# Altium integrated library Altera Cyclone II.IntLib: 234 symbols (part 3 of 38)
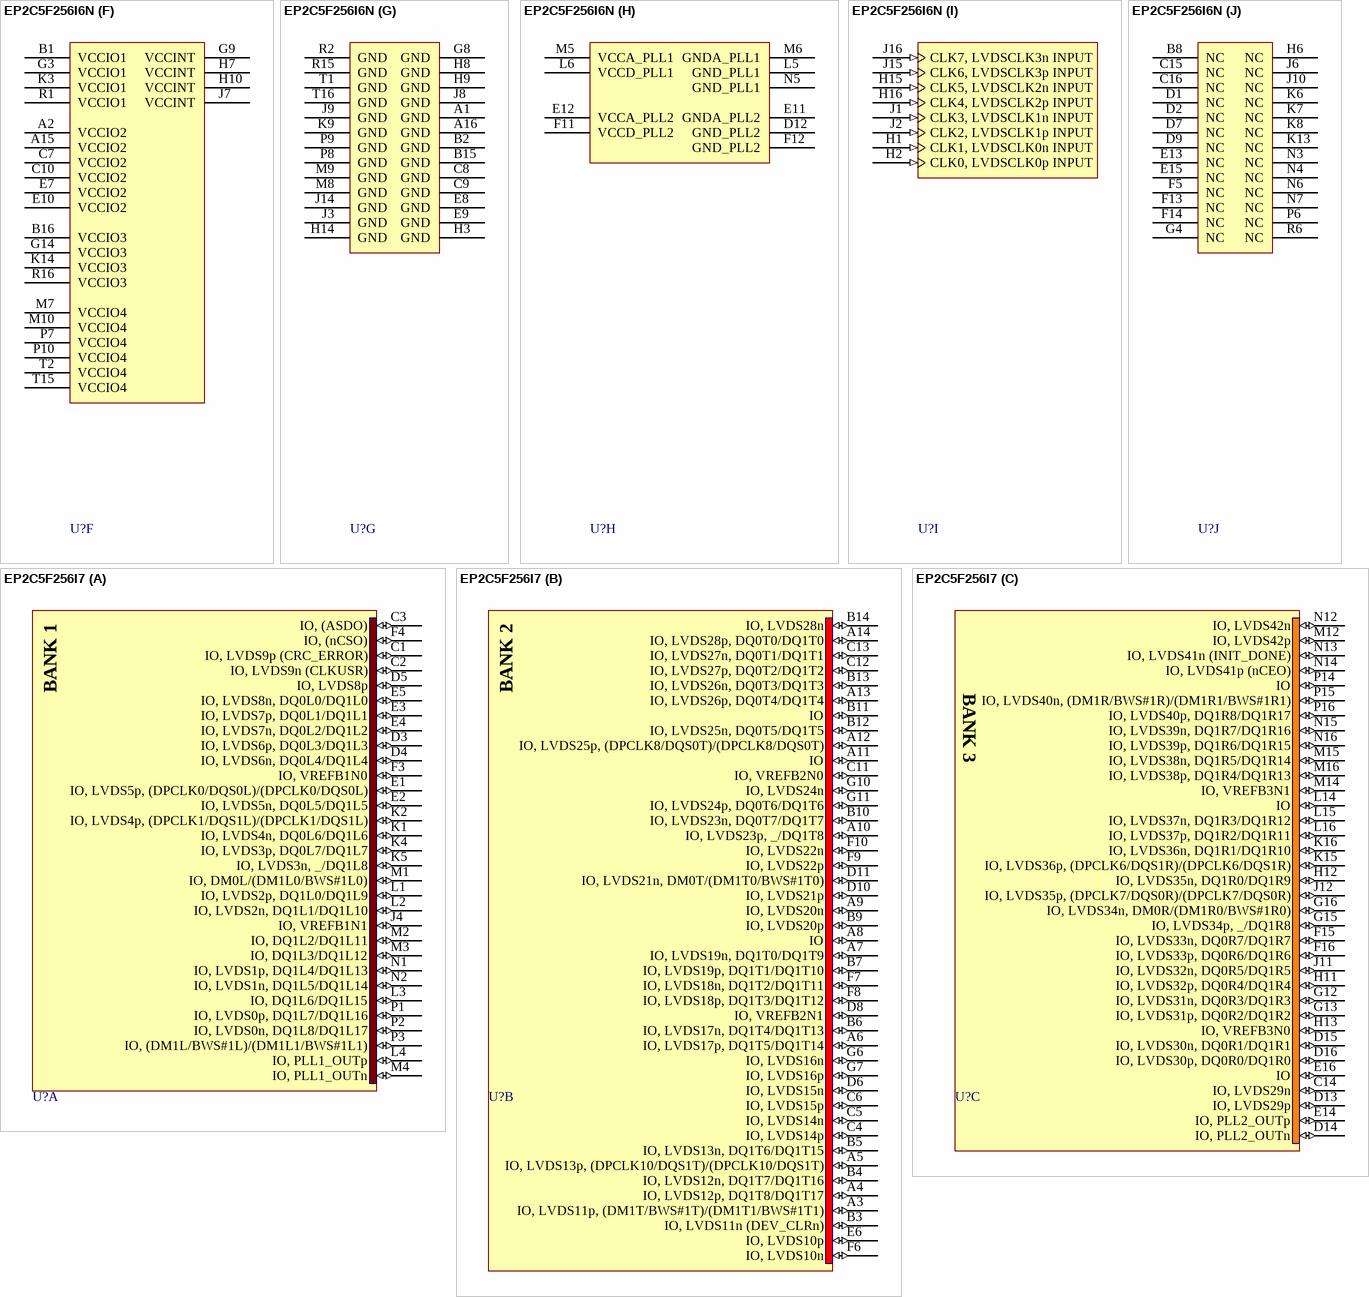
[diagram p400: symbols EP2C5F256I6N to EP2C5F256I7]

## EP2C5F256I6N
designator U?
Cyclone II Family, 1.2V FPGA, 158 I/O Pins, 2 PLLs, 256-Pin FBGA, Speed Grade 6, Industrial Grade, Pb-Free; Note: DQS signal pins named according to DQ bus modes.  "/" separates each mode. ie. Modes x8/x9 / Modes x16/x18.; Published: 18-Aug-2005; LatestRevisionDate: 14-May-2007; LatestRevisionNote: PCB pad size reduced.; DatasheetVersion: ver3.3, Feb-2008; PackageVersion: ver15.4, Dec-2008; PackageReference: FBGA256-2; Publisher: Altium Limited; PackageDescription: 256-Ball FineLine Ball Grid Array (FBGA256) - Option 2 - Wire Bond; Code_JEDEC: MO-192-DAF-1; ComponentLink1Description: Manufacturer Link; ComponentLink1URL: http://www.altera.com/products/devices/cyclone2/cy2-index.jsp; ComponentLink2Description: Handbook; ComponentLink2URL: http://www.altera.com/literature/hb/cyc2/cyc2_cii5v1.pdf; ComponentLink3Description: Packaging Specification; ComponentLink3URL: http://www.altera.com/literature/ds/dspkg.pdf
footprint FBGA256-2 (BGA, 256-Leads, Body 17x17mm, Pitch 1mm)
3D model EP2C5-FBGA256 (256-Ball FineLine Ball Grid Array (FBGA256) - Option 2 - Wire Bond)
signal-integrity model EP2C5F_256 (Cyclone II)
part A pins: C1 IO, LVDS9p (CRC_ERROR) (io), C2 IO, LVDS9n (CLKUSR) (io), C3 IO, (ASDO) (io), D3 IO, LVDS6p, DQ0L3/DQ1L3 (io), D4 IO, LVDS6n, DQ0L4/DQ1L4 (io), D5 IO, LVDS8p (io), E1 IO, LVDS5p, (DPCLK0/DQS0L)/(DPCLK0/DQS0L) (io), E2 IO, LVDS5n, DQ0L5/DQ1L5 (io), E3 IO, LVDS7p, DQ0L1/DQ1L1 (io), E4 IO, LVDS7n, DQ0L2/DQ1L2 (io), E5 IO, LVDS8n, DQ0L0/DQ1L0 (io), F3 IO, VREFB1N0 (io), F4 IO, (nCSO) (io), J4 IO, VREFB1N1 (io), K1 IO, LVDS4n, DQ0L6/DQ1L6 (io), K2 IO, LVDS4p, (DPCLK1/DQS1L)/(DPCLK1/DQS1L) (io), K4 IO, LVDS3p, DQ0L7/DQ1L7 (io), K5 IO, LVDS3n, _/DQ1L8 (io), L1 IO, LVDS2p, DQ1L0/DQ1L9 (io), L2 IO, LVDS2n, DQ1L1/DQ1L10 (io), L3 IO, DQ1L6/DQ1L15 (io), L4 IO, PLL1_OUTp (io), M1 IO, DM0L/(DM1L0/BWS#1L0) (io), M2 IO, DQ1L2/DQ1L11 (io), M3 IO, DQ1L3/DQ1L12 (io), M4 IO, PLL1_OUTn (io), N1 IO, LVDS1p, DQ1L4/DQ1L13 (io), N2 IO, LVDS1n, DQ1L5/DQ1L14 (io), P1 IO, LVDS0p, DQ1L7/DQ1L16 (io), P2 IO, LVDS0n, DQ1L8/DQ1L17 (io), P3 IO, (DM1L/BWS#1L)/(DM1L1/BWS#1L1) (io)
part B pins: A3 IO, LVDS11p, (DM1T/BWS#1T)/(DM1T1/BWS#1T1) (io), A4 IO, LVDS12p, DQ1T8/DQ1T17 (io), A5 IO, LVDS13p, (DPCLK10/DQS1T)/(DPCLK10/DQS1T) (io), A6 IO, LVDS17p, DQ1T5/DQ1T14 (io), A7 IO, LVDS19n, DQ1T0/DQ1T9 (io), A8 IO (io), A9 IO, LVDS20n (io), A10 IO, LVDS23p, _/DQ1T8 (io), A11 IO (io), A12 IO, LVDS25p, (DPCLK8/DQS0T)/(DPCLK8/DQS0T) (io), A13 IO, LVDS26p, DQ0T4/DQ1T4 (io), A14 IO, LVDS28p, DQ0T0/DQ1T0 (io), B3 IO, LVDS11n (DEV_CLRn) (io), B4 IO, LVDS12n, DQ1T7/DQ1T16 (io), B5 IO, LVDS13n, DQ1T6/DQ1T15 (io), B6 IO, LVDS17n, DQ1T4/DQ1T13 (io), B7 IO, LVDS19p, DQ1T1/DQ1T10 (io), B9 IO, LVDS20p (io), B10 IO, LVDS23n, DQ0T7/DQ1T7 (io), B11 IO (io), B12 IO, LVDS25n, DQ0T5/DQ1T5 (io), B13 IO, LVDS26n, DQ0T3/DQ1T3 (io), B14 IO, LVDS28n (io), C4 IO, LVDS14p (io), C5 IO, LVDS14n (io), C6 IO, LVDS15p (io), C11 IO, VREFB2N0 (io), C12 IO, LVDS27p, DQ0T2/DQ1T2 (io), C13 IO, LVDS27n, DQ0T1/DQ1T1 (io), D6 IO, LVDS15n (io), D8 IO, VREFB2N1 (io), D10 IO, LVDS21p (io), D11 IO, LVDS21n, DM0T/(DM1T0/BWS#1T0) (io), E6 IO, LVDS10p (io), F6 IO, LVDS10n (io), F7 IO, LVDS18n, DQ1T2/DQ1T11 (io), F8 IO, LVDS18p, DQ1T3/DQ1T12 (io), F9 IO, LVDS22p (io), F10 IO, LVDS22n (io), G6 IO, LVDS16n (io), G7 IO, LVDS16p (io), G10 IO, LVDS24n (io), G11 IO, LVDS24p, DQ0T6/DQ1T6 (io)
part C pins: C14 IO, LVDS29n (io), D13 IO, LVDS29p (io), D14 IO, PLL2_OUTn (io), D15 IO, LVDS30n, DQ0R1/DQ1R1 (io), D16 IO, LVDS30p, DQ0R0/DQ1R0 (io), E14 IO, PLL2_OUTp (io), E16 IO (io), F15 IO, LVDS33n, DQ0R7/DQ1R7 (io), F16 IO, LVDS33p, DQ0R6/DQ1R6 (io), G12 IO, LVDS31n, DQ0R3/DQ1R3 (io), G13 IO, LVDS31p, DQ0R2/DQ1R2 (io), G15 IO, LVDS34p, _/DQ1R8 (io), G16 IO, LVDS34n, DM0R/(DM1R0/BWS#1R0) (io), H11 IO, LVDS32p, DQ0R4/DQ1R4 (io), H12 IO, LVDS35n, DQ1R0/DQ1R9 (io), H13 IO, VREFB3N0 (io), J11 IO, LVDS32n, DQ0R5/DQ1R5 (io), J12 IO, LVDS35p, (DPCLK7/DQS0R)/(DPCLK7/DQS0R) (io), K15 IO, LVDS36p, (DPCLK6/DQS1R)/(DPCLK6/DQS1R) (io), K16 IO, LVDS36n, DQ1R1/DQ1R10 (io), L14 IO (io), L15 IO, LVDS37n, DQ1R3/DQ1R12 (io), L16 IO, LVDS37p, DQ1R2/DQ1R11 (io), M12 IO, LVDS42p (io), M14 IO, VREFB3N1 (io), M15 IO, LVDS38n, DQ1R5/DQ1R14 (io), M16 IO, LVDS38p, DQ1R4/DQ1R13 (io), N12 IO, LVDS42n (io), N13 IO, LVDS41n (INIT_DONE) (io), N14 IO, LVDS41p (nCEO) (io), N15 IO, LVDS39n, DQ1R7/DQ1R16 (io), N16 IO, LVDS39p, DQ1R6/DQ1R15 (io), P14 IO (io), P15 IO, LVDS40n, (DM1R/BWS#1R)/(DM1R1/BWS#1R1) (io), P16 IO, LVDS40p, DQ1R8/DQ1R17 (io)
part D pins: K10 IO, LVDS48n (io), K11 IO, LVDS48p (io), L7 IO, LVDS60p (io), L8 IO, LVDS60n (io), L9 IO, LVDS50p (io), L10 IO, LVDS50n (io), L11 IO, LVDS43n (io), L12 IO (io), M11 IO, LVDS43p (io), N8 IO, VREFB4N1 (io), N9 IO, LVDS59p (io), N10 IO, LVDS59n (io), N11 IO, VREFB4N0 (io), P4 IO, LVDS57n, DQ1B7/DQ1B16 (io), P5 IO, LVDS57p, DQ1B8/DQ1B17 (io), P11 IO (io), P12 IO, LVDS47p, DQ0B6/DQ1B6 (io), P13 IO, LVDS47n, DQ0B5/DQ1B5 (io), R3 IO, LVDS58n (DEV_OE) (io), R4 IO, LVDS56n, DQ1B5/DQ1B14 (io), R5 IO, LVDS55n, DQ1B4/DQ1B13 (io), R7 IO, LVDS54n, DQ1B1/DQ1B10 (io), R8 IO, LVDS53n, _/(DM1B0/BWS#1B0) (io), R9 IO, LVDS52n (io), R10 IO, LVDS49p (io), R11 IO, LVDS51n, DM0B/DQ1B8 (io), R12 IO, LVDS46n, DQ0B4/DQ1B4 (io), R13 IO, LVDS45n, DQ0B2/DQ1B2 (io), R14 IO, LVDS44n, DQ0B0/DQ1B0 (io), T3 IO, LVDS58p, (DM1B/BWS#1B)/(DM1B1/BWS#1B1) (io), T4 IO, LVDS56p, DQ1B6/DQ1B15 (io), T5 IO, LVDS55p, (DPCLK2/DQS1B)/(DPCLK2/DQS1B) (io), T6 IO, DQ1B3/DQ1B12 (io), T7 IO, LVDS54p, DQ1B2/DQ1B11 (io), T8 IO, LVDS53p, DQ1B0/DQ1B9 (io), T9 IO, LVDS52p (io), T10 IO, LVDS49n, DQ0B7/DQ1B7 (io), T11 IO, LVDS51p (io), T12 IO, LVDS46p, (DPCLK4/DQS0B)/(DPCLK4/DQS0B) (io), T13 IO, LVDS45p, DQ0B3/DQ1B3 (io), T14 IO, LVDS44p, DQ0B1/DQ1B1 (io)
part E pins: F1 DATA0 (in), F2 TCK (in), G1 TMS (in), G2 TDO (out), G5 nCE (in), H4 DCLK (io), H5 TDI (in), J5 nCONFIG (in), J13 MSEL0 (in), K12 MSEL1 (in), L13 CONF_DONE (io), M13 nSTATUS (io)
part F pins: A2 VCCIO2 (power), A15 VCCIO2 (power), B1 VCCIO1 (power), B16 VCCIO3 (power), C7 VCCIO2 (power), C10 VCCIO2 (power), E7 VCCIO2 (power), E10 VCCIO2 (power), G3 VCCIO1 (power), G9 VCCINT (power), G14 VCCIO3 (power), H7 VCCINT (power), H10 VCCINT (power), J7 VCCINT (power), K3 VCCIO1 (power), K14 VCCIO3 (power), M7 VCCIO4 (power), M10 VCCIO4 (power), P7 VCCIO4 (power), P10 VCCIO4 (power), R1 VCCIO1 (power), R16 VCCIO3 (power), T2 VCCIO4 (power), T15 VCCIO4 (power)
part G pins: A1 GND (power), A16 GND (power), B2 GND (power), B15 GND (power), C8 GND (power), C9 GND (power), E8 GND (power), E9 GND (power), G8 GND (power), H3 GND (power), H8 GND (power), H9 GND (power), H14 GND (power), J3 GND (power), J8 GND (power), J9 GND (power), J14 GND (power), K9 GND (power), M8 GND (power), M9 GND (power), P8 GND (power), P9 GND (power), R2 GND (power), R15 GND (power), T1 GND (power), T16 GND (power)
part H pins: D12 GND_PLL2 (power), E11 GNDA_PLL2 (power), E12 VCCA_PLL2 (power), F11 VCCD_PLL2 (power), F12 GND_PLL2 (power), L5 GND_PLL1 (power), L6 VCCD_PLL1 (power), M5 VCCA_PLL1 (power), M6 GNDA_PLL1 (power), N5 GND_PLL1 (power)
part I pins: H1 CLK1, LVDSCLK0n INPUT (in), H2 CLK0, LVDSCLK0p INPUT (in), H15 CLK5, LVDSCLK2n INPUT (in), H16 CLK4, LVDSCLK2p INPUT (in), J1 CLK3, LVDSCLK1n INPUT (in), J2 CLK2, LVDSCLK1p INPUT (in), J15 CLK6, LVDSCLK3p INPUT (in), J16 CLK7, LVDSCLK3n INPUT (in)
part J pins: B8 NC, C15 NC, C16 NC, D1 NC, D2 NC, D7 NC, D9 NC, E13 NC, E15 NC, F5 NC, F13 NC, F14 NC, G4 NC, H6 NC, J6 NC, J10 NC, K6 NC, K7 NC, K8 NC, K13 NC, N3 NC, N4 NC, N6 NC, N7 NC, P6 NC, R6 NC
part A text: BANK 1
part B text: BANK 2
part C text: BANK 3
part D text: BANK 4

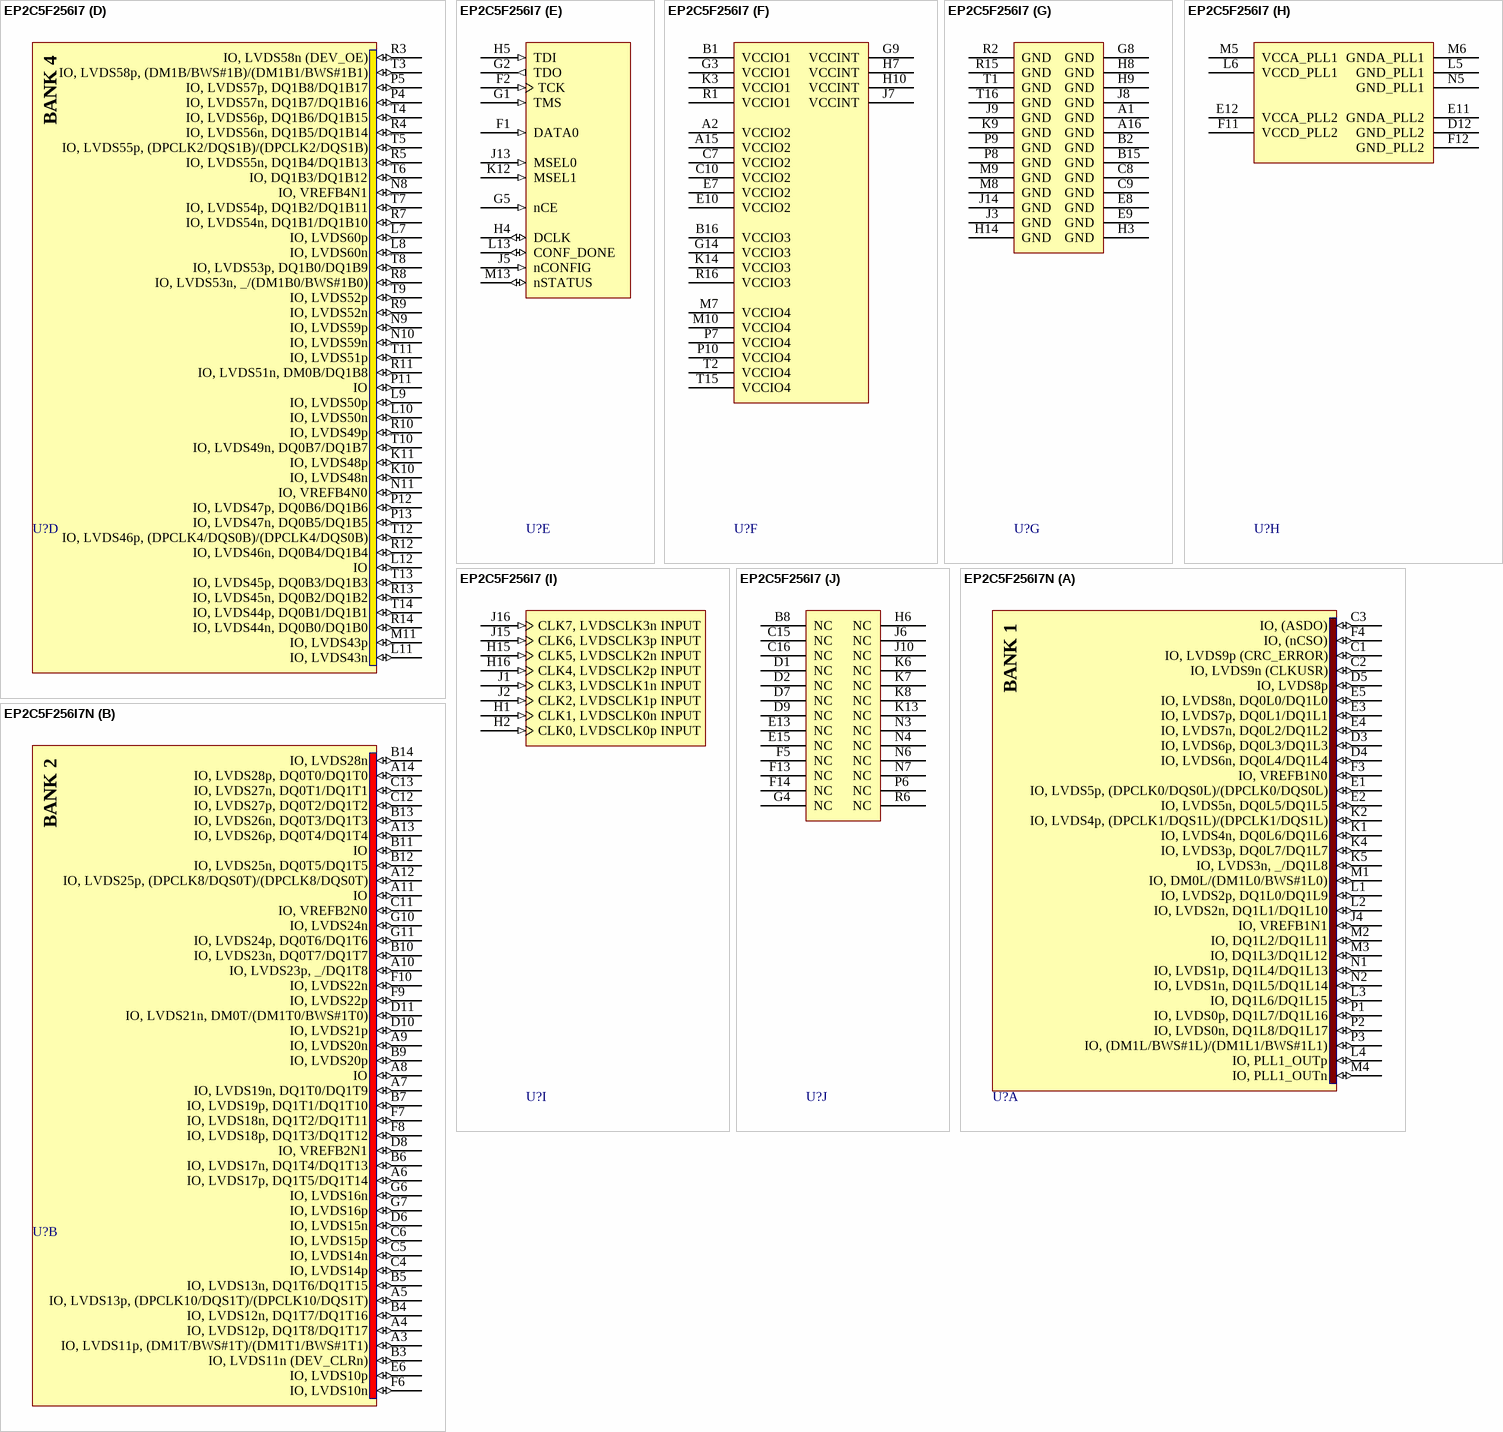
[diagram p10: symbols EP2C5F256I7 to EP2C5F256I7N]

## EP2C5F256I7
designator U?
Cyclone II Family, 1.2V FPGA, 158 I/O Pins, 2 PLLs, 256-Pin FBGA, Speed Grade 7, Industrial Grade; Note: DQS signal pins named according to DQ bus modes.  "/" separates each mode. ie. Modes x8/x9 / Modes x16/x18.; Published: 18-Aug-2005; LatestRevisionDate: 14-May-2007; LatestRevisionNote: PCB pad size reduced.; DatasheetVersion: ver3.3, Feb-2008; PackageVersion: ver15.4, Dec-2008; PackageReference: FBGA256-2; Publisher: Altium Limited; PackageDescription: 256-Ball FineLine Ball Grid Array (FBGA256) - Option 2 - Wire Bond; Code_JEDEC: MO-192-DAF-1; ComponentLink1Description: Manufacturer Link; ComponentLink1URL: http://www.altera.com/products/devices/cyclone2/cy2-index.jsp; ComponentLink2Description: Handbook; ComponentLink2URL: http://www.altera.com/literature/hb/cyc2/cyc2_cii5v1.pdf; ComponentLink3Description: Packaging Specification; ComponentLink3URL: http://www.altera.com/literature/ds/dspkg.pdf
footprint FBGA256-2 (BGA, 256-Leads, Body 17x17mm, Pitch 1mm)
3D model EP2C5-FBGA256 (256-Ball FineLine Ball Grid Array (FBGA256) - Option 2 - Wire Bond)
signal-integrity model EP2C5F_256 (Cyclone II)
part A pins: C1 IO, LVDS9p (CRC_ERROR) (io), C2 IO, LVDS9n (CLKUSR) (io), C3 IO, (ASDO) (io), D3 IO, LVDS6p, DQ0L3/DQ1L3 (io), D4 IO, LVDS6n, DQ0L4/DQ1L4 (io), D5 IO, LVDS8p (io), E1 IO, LVDS5p, (DPCLK0/DQS0L)/(DPCLK0/DQS0L) (io), E2 IO, LVDS5n, DQ0L5/DQ1L5 (io), E3 IO, LVDS7p, DQ0L1/DQ1L1 (io), E4 IO, LVDS7n, DQ0L2/DQ1L2 (io), E5 IO, LVDS8n, DQ0L0/DQ1L0 (io), F3 IO, VREFB1N0 (io), F4 IO, (nCSO) (io), J4 IO, VREFB1N1 (io), K1 IO, LVDS4n, DQ0L6/DQ1L6 (io), K2 IO, LVDS4p, (DPCLK1/DQS1L)/(DPCLK1/DQS1L) (io), K4 IO, LVDS3p, DQ0L7/DQ1L7 (io), K5 IO, LVDS3n, _/DQ1L8 (io), L1 IO, LVDS2p, DQ1L0/DQ1L9 (io), L2 IO, LVDS2n, DQ1L1/DQ1L10 (io), L3 IO, DQ1L6/DQ1L15 (io), L4 IO, PLL1_OUTp (io), M1 IO, DM0L/(DM1L0/BWS#1L0) (io), M2 IO, DQ1L2/DQ1L11 (io), M3 IO, DQ1L3/DQ1L12 (io), M4 IO, PLL1_OUTn (io), N1 IO, LVDS1p, DQ1L4/DQ1L13 (io), N2 IO, LVDS1n, DQ1L5/DQ1L14 (io), P1 IO, LVDS0p, DQ1L7/DQ1L16 (io), P2 IO, LVDS0n, DQ1L8/DQ1L17 (io), P3 IO, (DM1L/BWS#1L)/(DM1L1/BWS#1L1) (io)
part B pins: A3 IO, LVDS11p, (DM1T/BWS#1T)/(DM1T1/BWS#1T1) (io), A4 IO, LVDS12p, DQ1T8/DQ1T17 (io), A5 IO, LVDS13p, (DPCLK10/DQS1T)/(DPCLK10/DQS1T) (io), A6 IO, LVDS17p, DQ1T5/DQ1T14 (io), A7 IO, LVDS19n, DQ1T0/DQ1T9 (io), A8 IO (io), A9 IO, LVDS20n (io), A10 IO, LVDS23p, _/DQ1T8 (io), A11 IO (io), A12 IO, LVDS25p, (DPCLK8/DQS0T)/(DPCLK8/DQS0T) (io), A13 IO, LVDS26p, DQ0T4/DQ1T4 (io), A14 IO, LVDS28p, DQ0T0/DQ1T0 (io), B3 IO, LVDS11n (DEV_CLRn) (io), B4 IO, LVDS12n, DQ1T7/DQ1T16 (io), B5 IO, LVDS13n, DQ1T6/DQ1T15 (io), B6 IO, LVDS17n, DQ1T4/DQ1T13 (io), B7 IO, LVDS19p, DQ1T1/DQ1T10 (io), B9 IO, LVDS20p (io), B10 IO, LVDS23n, DQ0T7/DQ1T7 (io), B11 IO (io), B12 IO, LVDS25n, DQ0T5/DQ1T5 (io), B13 IO, LVDS26n, DQ0T3/DQ1T3 (io), B14 IO, LVDS28n (io), C4 IO, LVDS14p (io), C5 IO, LVDS14n (io), C6 IO, LVDS15p (io), C11 IO, VREFB2N0 (io), C12 IO, LVDS27p, DQ0T2/DQ1T2 (io), C13 IO, LVDS27n, DQ0T1/DQ1T1 (io), D6 IO, LVDS15n (io), D8 IO, VREFB2N1 (io), D10 IO, LVDS21p (io), D11 IO, LVDS21n, DM0T/(DM1T0/BWS#1T0) (io), E6 IO, LVDS10p (io), F6 IO, LVDS10n (io), F7 IO, LVDS18n, DQ1T2/DQ1T11 (io), F8 IO, LVDS18p, DQ1T3/DQ1T12 (io), F9 IO, LVDS22p (io), F10 IO, LVDS22n (io), G6 IO, LVDS16n (io), G7 IO, LVDS16p (io), G10 IO, LVDS24n (io), G11 IO, LVDS24p, DQ0T6/DQ1T6 (io)
part C pins: C14 IO, LVDS29n (io), D13 IO, LVDS29p (io), D14 IO, PLL2_OUTn (io), D15 IO, LVDS30n, DQ0R1/DQ1R1 (io), D16 IO, LVDS30p, DQ0R0/DQ1R0 (io), E14 IO, PLL2_OUTp (io), E16 IO (io), F15 IO, LVDS33n, DQ0R7/DQ1R7 (io), F16 IO, LVDS33p, DQ0R6/DQ1R6 (io), G12 IO, LVDS31n, DQ0R3/DQ1R3 (io), G13 IO, LVDS31p, DQ0R2/DQ1R2 (io), G15 IO, LVDS34p, _/DQ1R8 (io), G16 IO, LVDS34n, DM0R/(DM1R0/BWS#1R0) (io), H11 IO, LVDS32p, DQ0R4/DQ1R4 (io), H12 IO, LVDS35n, DQ1R0/DQ1R9 (io), H13 IO, VREFB3N0 (io), J11 IO, LVDS32n, DQ0R5/DQ1R5 (io), J12 IO, LVDS35p, (DPCLK7/DQS0R)/(DPCLK7/DQS0R) (io), K15 IO, LVDS36p, (DPCLK6/DQS1R)/(DPCLK6/DQS1R) (io), K16 IO, LVDS36n, DQ1R1/DQ1R10 (io), L14 IO (io), L15 IO, LVDS37n, DQ1R3/DQ1R12 (io), L16 IO, LVDS37p, DQ1R2/DQ1R11 (io), M12 IO, LVDS42p (io), M14 IO, VREFB3N1 (io), M15 IO, LVDS38n, DQ1R5/DQ1R14 (io), M16 IO, LVDS38p, DQ1R4/DQ1R13 (io), N12 IO, LVDS42n (io), N13 IO, LVDS41n (INIT_DONE) (io), N14 IO, LVDS41p (nCEO) (io), N15 IO, LVDS39n, DQ1R7/DQ1R16 (io), N16 IO, LVDS39p, DQ1R6/DQ1R15 (io), P14 IO (io), P15 IO, LVDS40n, (DM1R/BWS#1R)/(DM1R1/BWS#1R1) (io), P16 IO, LVDS40p, DQ1R8/DQ1R17 (io)
part D pins: K10 IO, LVDS48n (io), K11 IO, LVDS48p (io), L7 IO, LVDS60p (io), L8 IO, LVDS60n (io), L9 IO, LVDS50p (io), L10 IO, LVDS50n (io), L11 IO, LVDS43n (io), L12 IO (io), M11 IO, LVDS43p (io), N8 IO, VREFB4N1 (io), N9 IO, LVDS59p (io), N10 IO, LVDS59n (io), N11 IO, VREFB4N0 (io), P4 IO, LVDS57n, DQ1B7/DQ1B16 (io), P5 IO, LVDS57p, DQ1B8/DQ1B17 (io), P11 IO (io), P12 IO, LVDS47p, DQ0B6/DQ1B6 (io), P13 IO, LVDS47n, DQ0B5/DQ1B5 (io), R3 IO, LVDS58n (DEV_OE) (io), R4 IO, LVDS56n, DQ1B5/DQ1B14 (io), R5 IO, LVDS55n, DQ1B4/DQ1B13 (io), R7 IO, LVDS54n, DQ1B1/DQ1B10 (io), R8 IO, LVDS53n, _/(DM1B0/BWS#1B0) (io), R9 IO, LVDS52n (io), R10 IO, LVDS49p (io), R11 IO, LVDS51n, DM0B/DQ1B8 (io), R12 IO, LVDS46n, DQ0B4/DQ1B4 (io), R13 IO, LVDS45n, DQ0B2/DQ1B2 (io), R14 IO, LVDS44n, DQ0B0/DQ1B0 (io), T3 IO, LVDS58p, (DM1B/BWS#1B)/(DM1B1/BWS#1B1) (io), T4 IO, LVDS56p, DQ1B6/DQ1B15 (io), T5 IO, LVDS55p, (DPCLK2/DQS1B)/(DPCLK2/DQS1B) (io), T6 IO, DQ1B3/DQ1B12 (io), T7 IO, LVDS54p, DQ1B2/DQ1B11 (io), T8 IO, LVDS53p, DQ1B0/DQ1B9 (io), T9 IO, LVDS52p (io), T10 IO, LVDS49n, DQ0B7/DQ1B7 (io), T11 IO, LVDS51p (io), T12 IO, LVDS46p, (DPCLK4/DQS0B)/(DPCLK4/DQS0B) (io), T13 IO, LVDS45p, DQ0B3/DQ1B3 (io), T14 IO, LVDS44p, DQ0B1/DQ1B1 (io)
part E pins: F1 DATA0 (in), F2 TCK (in), G1 TMS (in), G2 TDO (out), G5 nCE (in), H4 DCLK (io), H5 TDI (in), J5 nCONFIG (in), J13 MSEL0 (in), K12 MSEL1 (in), L13 CONF_DONE (io), M13 nSTATUS (io)
part F pins: A2 VCCIO2 (power), A15 VCCIO2 (power), B1 VCCIO1 (power), B16 VCCIO3 (power), C7 VCCIO2 (power), C10 VCCIO2 (power), E7 VCCIO2 (power), E10 VCCIO2 (power), G3 VCCIO1 (power), G9 VCCINT (power), G14 VCCIO3 (power), H7 VCCINT (power), H10 VCCINT (power), J7 VCCINT (power), K3 VCCIO1 (power), K14 VCCIO3 (power), M7 VCCIO4 (power), M10 VCCIO4 (power), P7 VCCIO4 (power), P10 VCCIO4 (power), R1 VCCIO1 (power), R16 VCCIO3 (power), T2 VCCIO4 (power), T15 VCCIO4 (power)
part G pins: A1 GND (power), A16 GND (power), B2 GND (power), B15 GND (power), C8 GND (power), C9 GND (power), E8 GND (power), E9 GND (power), G8 GND (power), H3 GND (power), H8 GND (power), H9 GND (power), H14 GND (power), J3 GND (power), J8 GND (power), J9 GND (power), J14 GND (power), K9 GND (power), M8 GND (power), M9 GND (power), P8 GND (power), P9 GND (power), R2 GND (power), R15 GND (power), T1 GND (power), T16 GND (power)
part H pins: D12 GND_PLL2 (power), E11 GNDA_PLL2 (power), E12 VCCA_PLL2 (power), F11 VCCD_PLL2 (power), F12 GND_PLL2 (power), L5 GND_PLL1 (power), L6 VCCD_PLL1 (power), M5 VCCA_PLL1 (power), M6 GNDA_PLL1 (power), N5 GND_PLL1 (power)
part I pins: H1 CLK1, LVDSCLK0n INPUT (in), H2 CLK0, LVDSCLK0p INPUT (in), H15 CLK5, LVDSCLK2n INPUT (in), H16 CLK4, LVDSCLK2p INPUT (in), J1 CLK3, LVDSCLK1n INPUT (in), J2 CLK2, LVDSCLK1p INPUT (in), J15 CLK6, LVDSCLK3p INPUT (in), J16 CLK7, LVDSCLK3n INPUT (in)
part J pins: B8 NC, C15 NC, C16 NC, D1 NC, D2 NC, D7 NC, D9 NC, E13 NC, E15 NC, F5 NC, F13 NC, F14 NC, G4 NC, H6 NC, J6 NC, J10 NC, K6 NC, K7 NC, K8 NC, K13 NC, N3 NC, N4 NC, N6 NC, N7 NC, P6 NC, R6 NC
part A text: BANK 1
part B text: BANK 2
part C text: BANK 3
part D text: BANK 4

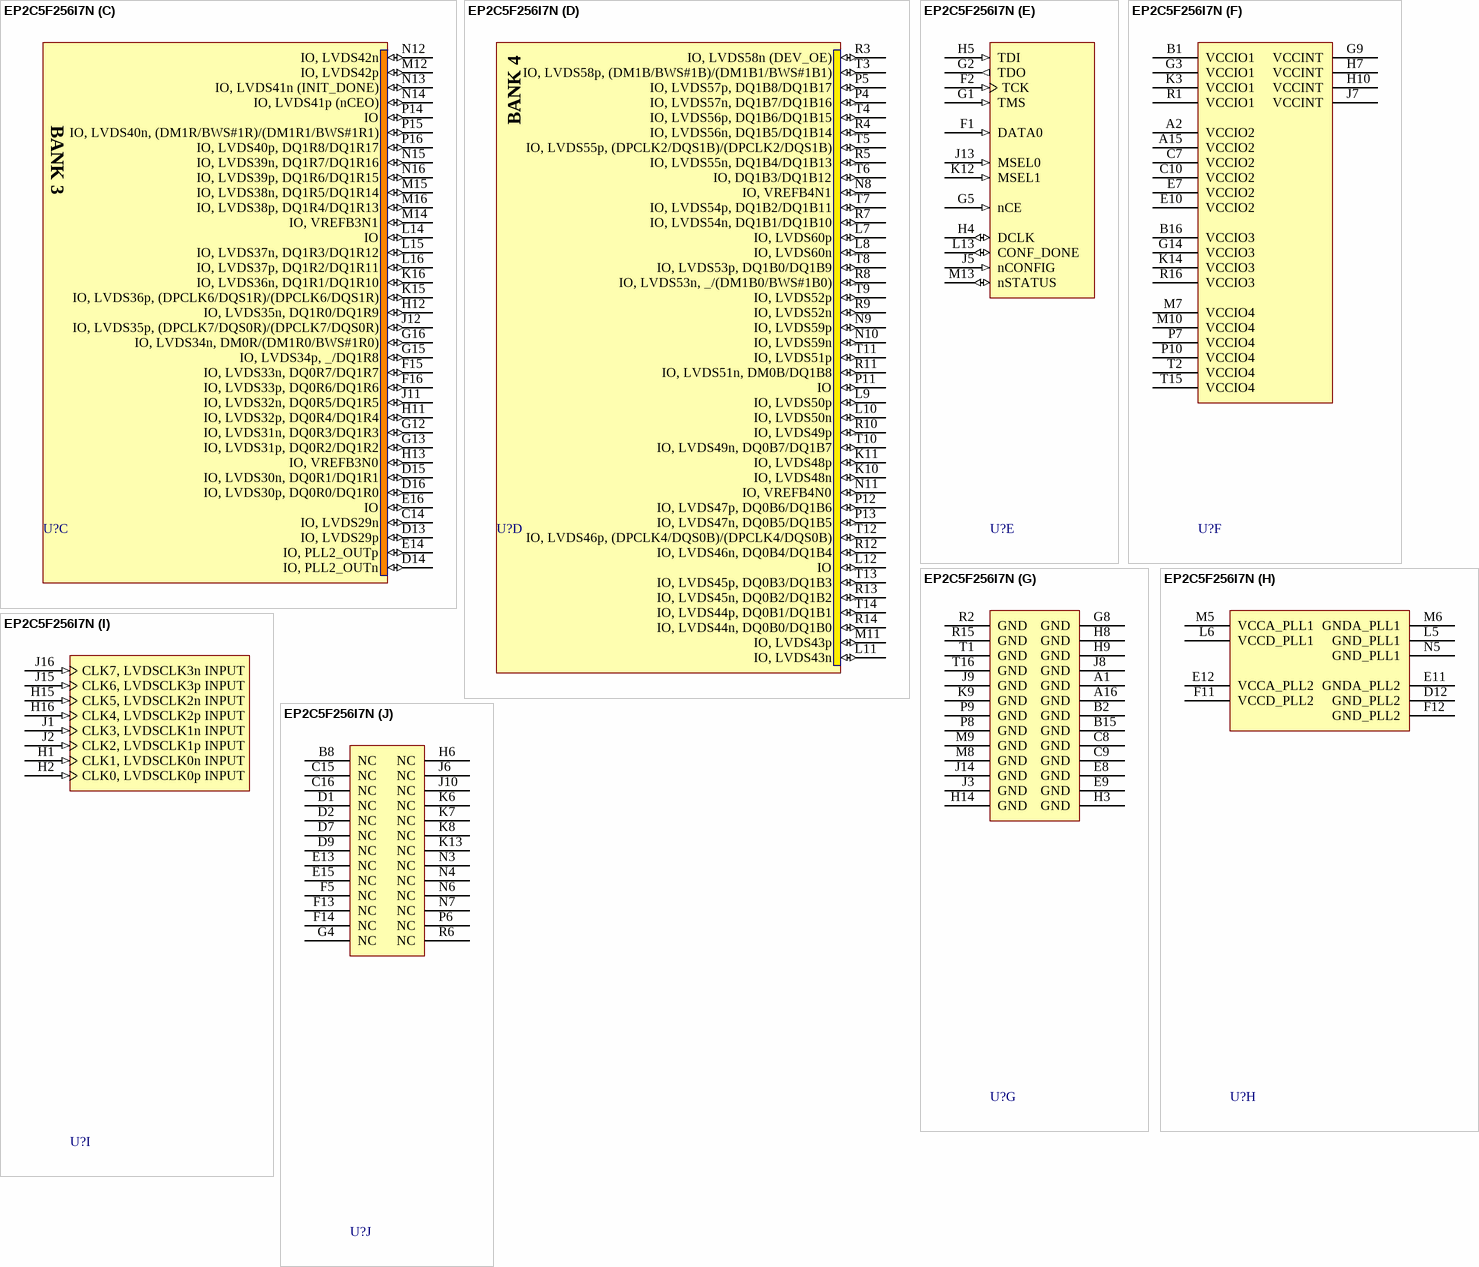
[diagram p11: symbol EP2C5F256I7N]

## EP2C5F256I7N
designator U?
Cyclone II Family, 1.2V FPGA, 158 I/O Pins, 2 PLLs, 256-Pin FBGA, Speed Grade 7, Industrial Grade, Pb-Free; Note: DQS signal pins named according to DQ bus modes.  "/" separates each mode. ie. Modes x8/x9 / Modes x16/x18.; Published: 18-Aug-2005; LatestRevisionDate: 14-May-2007; LatestRevisionNote: PCB pad size reduced.; DatasheetVersion: ver3.3, Feb-2008; PackageVersion: ver15.4, Dec-2008; PackageReference: FBGA256-2; Publisher: Altium Limited; PackageDescription: 256-Ball FineLine Ball Grid Array (FBGA256) - Option 2 - Wire Bond; Code_JEDEC: MO-192-DAF-1; ComponentLink1Description: Manufacturer Link; ComponentLink1URL: http://www.altera.com/products/devices/cyclone2/cy2-index.jsp; ComponentLink2Description: Handbook; ComponentLink2URL: http://www.altera.com/literature/hb/cyc2/cyc2_cii5v1.pdf; ComponentLink3Description: Packaging Specification; ComponentLink3URL: http://www.altera.com/literature/ds/dspkg.pdf
footprint FBGA256-2 (BGA, 256-Leads, Body 17x17mm, Pitch 1mm)
3D model EP2C5-FBGA256 (256-Ball FineLine Ball Grid Array (FBGA256) - Option 2 - Wire Bond)
signal-integrity model EP2C5F_256 (Cyclone II)
part A pins: C1 IO, LVDS9p (CRC_ERROR) (io), C2 IO, LVDS9n (CLKUSR) (io), C3 IO, (ASDO) (io), D3 IO, LVDS6p, DQ0L3/DQ1L3 (io), D4 IO, LVDS6n, DQ0L4/DQ1L4 (io), D5 IO, LVDS8p (io), E1 IO, LVDS5p, (DPCLK0/DQS0L)/(DPCLK0/DQS0L) (io), E2 IO, LVDS5n, DQ0L5/DQ1L5 (io), E3 IO, LVDS7p, DQ0L1/DQ1L1 (io), E4 IO, LVDS7n, DQ0L2/DQ1L2 (io), E5 IO, LVDS8n, DQ0L0/DQ1L0 (io), F3 IO, VREFB1N0 (io), F4 IO, (nCSO) (io), J4 IO, VREFB1N1 (io), K1 IO, LVDS4n, DQ0L6/DQ1L6 (io), K2 IO, LVDS4p, (DPCLK1/DQS1L)/(DPCLK1/DQS1L) (io), K4 IO, LVDS3p, DQ0L7/DQ1L7 (io), K5 IO, LVDS3n, _/DQ1L8 (io), L1 IO, LVDS2p, DQ1L0/DQ1L9 (io), L2 IO, LVDS2n, DQ1L1/DQ1L10 (io), L3 IO, DQ1L6/DQ1L15 (io), L4 IO, PLL1_OUTp (io), M1 IO, DM0L/(DM1L0/BWS#1L0) (io), M2 IO, DQ1L2/DQ1L11 (io), M3 IO, DQ1L3/DQ1L12 (io), M4 IO, PLL1_OUTn (io), N1 IO, LVDS1p, DQ1L4/DQ1L13 (io), N2 IO, LVDS1n, DQ1L5/DQ1L14 (io), P1 IO, LVDS0p, DQ1L7/DQ1L16 (io), P2 IO, LVDS0n, DQ1L8/DQ1L17 (io), P3 IO, (DM1L/BWS#1L)/(DM1L1/BWS#1L1) (io)
part B pins: A3 IO, LVDS11p, (DM1T/BWS#1T)/(DM1T1/BWS#1T1) (io), A4 IO, LVDS12p, DQ1T8/DQ1T17 (io), A5 IO, LVDS13p, (DPCLK10/DQS1T)/(DPCLK10/DQS1T) (io), A6 IO, LVDS17p, DQ1T5/DQ1T14 (io), A7 IO, LVDS19n, DQ1T0/DQ1T9 (io), A8 IO (io), A9 IO, LVDS20n (io), A10 IO, LVDS23p, _/DQ1T8 (io), A11 IO (io), A12 IO, LVDS25p, (DPCLK8/DQS0T)/(DPCLK8/DQS0T) (io), A13 IO, LVDS26p, DQ0T4/DQ1T4 (io), A14 IO, LVDS28p, DQ0T0/DQ1T0 (io), B3 IO, LVDS11n (DEV_CLRn) (io), B4 IO, LVDS12n, DQ1T7/DQ1T16 (io), B5 IO, LVDS13n, DQ1T6/DQ1T15 (io), B6 IO, LVDS17n, DQ1T4/DQ1T13 (io), B7 IO, LVDS19p, DQ1T1/DQ1T10 (io), B9 IO, LVDS20p (io), B10 IO, LVDS23n, DQ0T7/DQ1T7 (io), B11 IO (io), B12 IO, LVDS25n, DQ0T5/DQ1T5 (io), B13 IO, LVDS26n, DQ0T3/DQ1T3 (io), B14 IO, LVDS28n (io), C4 IO, LVDS14p (io), C5 IO, LVDS14n (io), C6 IO, LVDS15p (io), C11 IO, VREFB2N0 (io), C12 IO, LVDS27p, DQ0T2/DQ1T2 (io), C13 IO, LVDS27n, DQ0T1/DQ1T1 (io), D6 IO, LVDS15n (io), D8 IO, VREFB2N1 (io), D10 IO, LVDS21p (io), D11 IO, LVDS21n, DM0T/(DM1T0/BWS#1T0) (io), E6 IO, LVDS10p (io), F6 IO, LVDS10n (io), F7 IO, LVDS18n, DQ1T2/DQ1T11 (io), F8 IO, LVDS18p, DQ1T3/DQ1T12 (io), F9 IO, LVDS22p (io), F10 IO, LVDS22n (io), G6 IO, LVDS16n (io), G7 IO, LVDS16p (io), G10 IO, LVDS24n (io), G11 IO, LVDS24p, DQ0T6/DQ1T6 (io)
part C pins: C14 IO, LVDS29n (io), D13 IO, LVDS29p (io), D14 IO, PLL2_OUTn (io), D15 IO, LVDS30n, DQ0R1/DQ1R1 (io), D16 IO, LVDS30p, DQ0R0/DQ1R0 (io), E14 IO, PLL2_OUTp (io), E16 IO (io), F15 IO, LVDS33n, DQ0R7/DQ1R7 (io), F16 IO, LVDS33p, DQ0R6/DQ1R6 (io), G12 IO, LVDS31n, DQ0R3/DQ1R3 (io), G13 IO, LVDS31p, DQ0R2/DQ1R2 (io), G15 IO, LVDS34p, _/DQ1R8 (io), G16 IO, LVDS34n, DM0R/(DM1R0/BWS#1R0) (io), H11 IO, LVDS32p, DQ0R4/DQ1R4 (io), H12 IO, LVDS35n, DQ1R0/DQ1R9 (io), H13 IO, VREFB3N0 (io), J11 IO, LVDS32n, DQ0R5/DQ1R5 (io), J12 IO, LVDS35p, (DPCLK7/DQS0R)/(DPCLK7/DQS0R) (io), K15 IO, LVDS36p, (DPCLK6/DQS1R)/(DPCLK6/DQS1R) (io), K16 IO, LVDS36n, DQ1R1/DQ1R10 (io), L14 IO (io), L15 IO, LVDS37n, DQ1R3/DQ1R12 (io), L16 IO, LVDS37p, DQ1R2/DQ1R11 (io), M12 IO, LVDS42p (io), M14 IO, VREFB3N1 (io), M15 IO, LVDS38n, DQ1R5/DQ1R14 (io), M16 IO, LVDS38p, DQ1R4/DQ1R13 (io), N12 IO, LVDS42n (io), N13 IO, LVDS41n (INIT_DONE) (io), N14 IO, LVDS41p (nCEO) (io), N15 IO, LVDS39n, DQ1R7/DQ1R16 (io), N16 IO, LVDS39p, DQ1R6/DQ1R15 (io), P14 IO (io), P15 IO, LVDS40n, (DM1R/BWS#1R)/(DM1R1/BWS#1R1) (io), P16 IO, LVDS40p, DQ1R8/DQ1R17 (io)
part D pins: K10 IO, LVDS48n (io), K11 IO, LVDS48p (io), L7 IO, LVDS60p (io), L8 IO, LVDS60n (io), L9 IO, LVDS50p (io), L10 IO, LVDS50n (io), L11 IO, LVDS43n (io), L12 IO (io), M11 IO, LVDS43p (io), N8 IO, VREFB4N1 (io), N9 IO, LVDS59p (io), N10 IO, LVDS59n (io), N11 IO, VREFB4N0 (io), P4 IO, LVDS57n, DQ1B7/DQ1B16 (io), P5 IO, LVDS57p, DQ1B8/DQ1B17 (io), P11 IO (io), P12 IO, LVDS47p, DQ0B6/DQ1B6 (io), P13 IO, LVDS47n, DQ0B5/DQ1B5 (io), R3 IO, LVDS58n (DEV_OE) (io), R4 IO, LVDS56n, DQ1B5/DQ1B14 (io), R5 IO, LVDS55n, DQ1B4/DQ1B13 (io), R7 IO, LVDS54n, DQ1B1/DQ1B10 (io), R8 IO, LVDS53n, _/(DM1B0/BWS#1B0) (io), R9 IO, LVDS52n (io), R10 IO, LVDS49p (io), R11 IO, LVDS51n, DM0B/DQ1B8 (io), R12 IO, LVDS46n, DQ0B4/DQ1B4 (io), R13 IO, LVDS45n, DQ0B2/DQ1B2 (io), R14 IO, LVDS44n, DQ0B0/DQ1B0 (io), T3 IO, LVDS58p, (DM1B/BWS#1B)/(DM1B1/BWS#1B1) (io), T4 IO, LVDS56p, DQ1B6/DQ1B15 (io), T5 IO, LVDS55p, (DPCLK2/DQS1B)/(DPCLK2/DQS1B) (io), T6 IO, DQ1B3/DQ1B12 (io), T7 IO, LVDS54p, DQ1B2/DQ1B11 (io), T8 IO, LVDS53p, DQ1B0/DQ1B9 (io), T9 IO, LVDS52p (io), T10 IO, LVDS49n, DQ0B7/DQ1B7 (io), T11 IO, LVDS51p (io), T12 IO, LVDS46p, (DPCLK4/DQS0B)/(DPCLK4/DQS0B) (io), T13 IO, LVDS45p, DQ0B3/DQ1B3 (io), T14 IO, LVDS44p, DQ0B1/DQ1B1 (io)
part E pins: F1 DATA0 (in), F2 TCK (in), G1 TMS (in), G2 TDO (out), G5 nCE (in), H4 DCLK (io), H5 TDI (in), J5 nCONFIG (in), J13 MSEL0 (in), K12 MSEL1 (in), L13 CONF_DONE (io), M13 nSTATUS (io)
part F pins: A2 VCCIO2 (power), A15 VCCIO2 (power), B1 VCCIO1 (power), B16 VCCIO3 (power), C7 VCCIO2 (power), C10 VCCIO2 (power), E7 VCCIO2 (power), E10 VCCIO2 (power), G3 VCCIO1 (power), G9 VCCINT (power), G14 VCCIO3 (power), H7 VCCINT (power), H10 VCCINT (power), J7 VCCINT (power), K3 VCCIO1 (power), K14 VCCIO3 (power), M7 VCCIO4 (power), M10 VCCIO4 (power), P7 VCCIO4 (power), P10 VCCIO4 (power), R1 VCCIO1 (power), R16 VCCIO3 (power), T2 VCCIO4 (power), T15 VCCIO4 (power)
part G pins: A1 GND (power), A16 GND (power), B2 GND (power), B15 GND (power), C8 GND (power), C9 GND (power), E8 GND (power), E9 GND (power), G8 GND (power), H3 GND (power), H8 GND (power), H9 GND (power), H14 GND (power), J3 GND (power), J8 GND (power), J9 GND (power), J14 GND (power), K9 GND (power), M8 GND (power), M9 GND (power), P8 GND (power), P9 GND (power), R2 GND (power), R15 GND (power), T1 GND (power), T16 GND (power)
part H pins: D12 GND_PLL2 (power), E11 GNDA_PLL2 (power), E12 VCCA_PLL2 (power), F11 VCCD_PLL2 (power), F12 GND_PLL2 (power), L5 GND_PLL1 (power), L6 VCCD_PLL1 (power), M5 VCCA_PLL1 (power), M6 GNDA_PLL1 (power), N5 GND_PLL1 (power)
part I pins: H1 CLK1, LVDSCLK0n INPUT (in), H2 CLK0, LVDSCLK0p INPUT (in), H15 CLK5, LVDSCLK2n INPUT (in), H16 CLK4, LVDSCLK2p INPUT (in), J1 CLK3, LVDSCLK1n INPUT (in), J2 CLK2, LVDSCLK1p INPUT (in), J15 CLK6, LVDSCLK3p INPUT (in), J16 CLK7, LVDSCLK3n INPUT (in)
part J pins: B8 NC, C15 NC, C16 NC, D1 NC, D2 NC, D7 NC, D9 NC, E13 NC, E15 NC, F5 NC, F13 NC, F14 NC, G4 NC, H6 NC, J6 NC, J10 NC, K6 NC, K7 NC, K8 NC, K13 NC, N3 NC, N4 NC, N6 NC, N7 NC, P6 NC, R6 NC
part A text: BANK 1
part B text: BANK 2
part C text: BANK 3
part D text: BANK 4

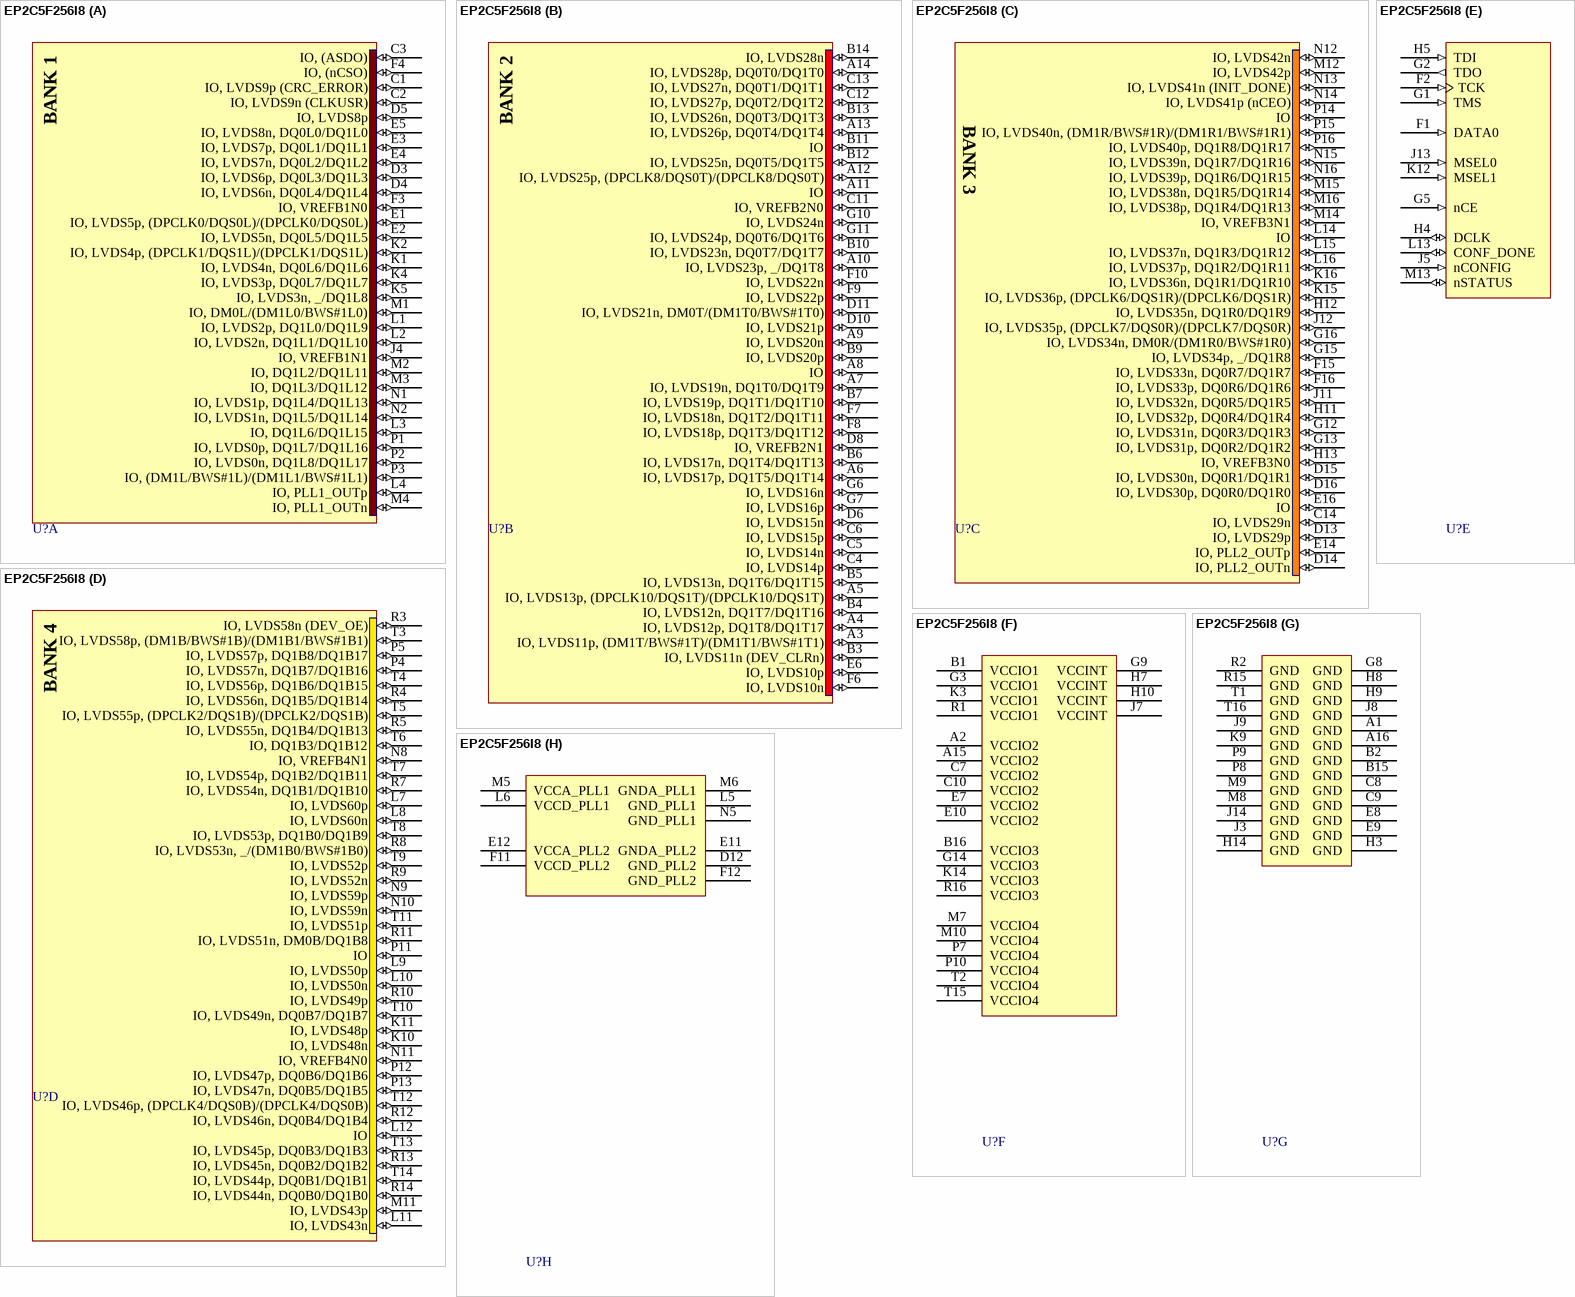
[diagram p12: symbol EP2C5F256I8]

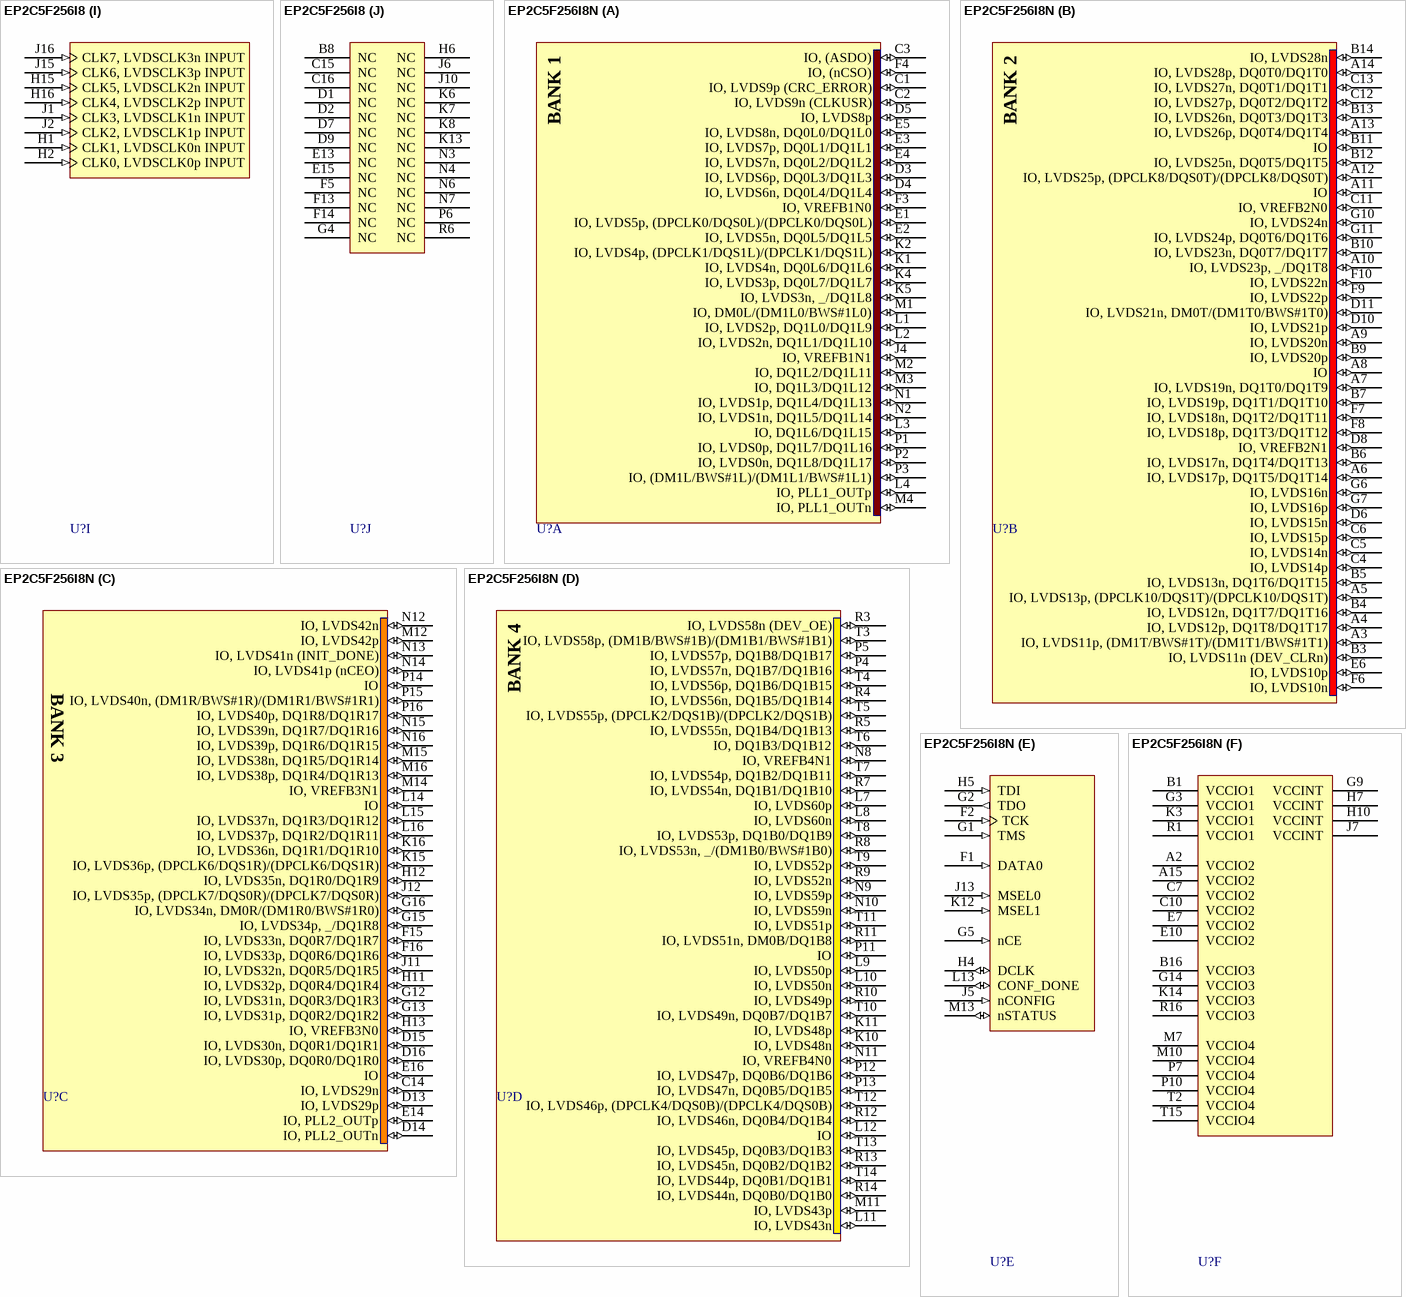
[diagram p13: symbols EP2C5F256I8 to EP2C5F256I8N]

## EP2C5F256I8
designator U?
Cyclone II Family, 1.2V FPGA, 158 I/O Pins, 2 PLLs, 256-Pin FBGA, Speed Grade 8, Industrial Grade; Note: DQS signal pins named according to DQ bus modes.  "/" separates each mode. ie. Modes x8/x9 / Modes x16/x18.; Published: 18-Aug-2005; LatestRevisionDate: 14-May-2007; LatestRevisionNote: PCB pad size reduced.; DatasheetVersion: ver3.3, Feb-2008; PackageVersion: ver15.4, Dec-2008; PackageReference: FBGA256-2; Publisher: Altium Limited; PackageDescription: 256-Ball FineLine Ball Grid Array (FBGA256) - Option 2 - Wire Bond; Code_JEDEC: MO-192-DAF-1; ComponentLink1Description: Manufacturer Link; ComponentLink1URL: http://www.altera.com/products/devices/cyclone2/cy2-index.jsp; ComponentLink2Description: Handbook; ComponentLink2URL: http://www.altera.com/literature/hb/cyc2/cyc2_cii5v1.pdf; ComponentLink3Description: Packaging Specification; ComponentLink3URL: http://www.altera.com/literature/ds/dspkg.pdf
footprint FBGA256-2 (BGA, 256-Leads, Body 17x17mm, Pitch 1mm)
3D model EP2C5-FBGA256 (256-Ball FineLine Ball Grid Array (FBGA256) - Option 2 - Wire Bond)
signal-integrity model EP2C5F_256 (Cyclone II)
part A pins: C1 IO, LVDS9p (CRC_ERROR) (io), C2 IO, LVDS9n (CLKUSR) (io), C3 IO, (ASDO) (io), D3 IO, LVDS6p, DQ0L3/DQ1L3 (io), D4 IO, LVDS6n, DQ0L4/DQ1L4 (io), D5 IO, LVDS8p (io), E1 IO, LVDS5p, (DPCLK0/DQS0L)/(DPCLK0/DQS0L) (io), E2 IO, LVDS5n, DQ0L5/DQ1L5 (io), E3 IO, LVDS7p, DQ0L1/DQ1L1 (io), E4 IO, LVDS7n, DQ0L2/DQ1L2 (io), E5 IO, LVDS8n, DQ0L0/DQ1L0 (io), F3 IO, VREFB1N0 (io), F4 IO, (nCSO) (io), J4 IO, VREFB1N1 (io), K1 IO, LVDS4n, DQ0L6/DQ1L6 (io), K2 IO, LVDS4p, (DPCLK1/DQS1L)/(DPCLK1/DQS1L) (io), K4 IO, LVDS3p, DQ0L7/DQ1L7 (io), K5 IO, LVDS3n, _/DQ1L8 (io), L1 IO, LVDS2p, DQ1L0/DQ1L9 (io), L2 IO, LVDS2n, DQ1L1/DQ1L10 (io), L3 IO, DQ1L6/DQ1L15 (io), L4 IO, PLL1_OUTp (io), M1 IO, DM0L/(DM1L0/BWS#1L0) (io), M2 IO, DQ1L2/DQ1L11 (io), M3 IO, DQ1L3/DQ1L12 (io), M4 IO, PLL1_OUTn (io), N1 IO, LVDS1p, DQ1L4/DQ1L13 (io), N2 IO, LVDS1n, DQ1L5/DQ1L14 (io), P1 IO, LVDS0p, DQ1L7/DQ1L16 (io), P2 IO, LVDS0n, DQ1L8/DQ1L17 (io), P3 IO, (DM1L/BWS#1L)/(DM1L1/BWS#1L1) (io)
part B pins: A3 IO, LVDS11p, (DM1T/BWS#1T)/(DM1T1/BWS#1T1) (io), A4 IO, LVDS12p, DQ1T8/DQ1T17 (io), A5 IO, LVDS13p, (DPCLK10/DQS1T)/(DPCLK10/DQS1T) (io), A6 IO, LVDS17p, DQ1T5/DQ1T14 (io), A7 IO, LVDS19n, DQ1T0/DQ1T9 (io), A8 IO (io), A9 IO, LVDS20n (io), A10 IO, LVDS23p, _/DQ1T8 (io), A11 IO (io), A12 IO, LVDS25p, (DPCLK8/DQS0T)/(DPCLK8/DQS0T) (io), A13 IO, LVDS26p, DQ0T4/DQ1T4 (io), A14 IO, LVDS28p, DQ0T0/DQ1T0 (io), B3 IO, LVDS11n (DEV_CLRn) (io), B4 IO, LVDS12n, DQ1T7/DQ1T16 (io), B5 IO, LVDS13n, DQ1T6/DQ1T15 (io), B6 IO, LVDS17n, DQ1T4/DQ1T13 (io), B7 IO, LVDS19p, DQ1T1/DQ1T10 (io), B9 IO, LVDS20p (io), B10 IO, LVDS23n, DQ0T7/DQ1T7 (io), B11 IO (io), B12 IO, LVDS25n, DQ0T5/DQ1T5 (io), B13 IO, LVDS26n, DQ0T3/DQ1T3 (io), B14 IO, LVDS28n (io), C4 IO, LVDS14p (io), C5 IO, LVDS14n (io), C6 IO, LVDS15p (io), C11 IO, VREFB2N0 (io), C12 IO, LVDS27p, DQ0T2/DQ1T2 (io), C13 IO, LVDS27n, DQ0T1/DQ1T1 (io), D6 IO, LVDS15n (io), D8 IO, VREFB2N1 (io), D10 IO, LVDS21p (io), D11 IO, LVDS21n, DM0T/(DM1T0/BWS#1T0) (io), E6 IO, LVDS10p (io), F6 IO, LVDS10n (io), F7 IO, LVDS18n, DQ1T2/DQ1T11 (io), F8 IO, LVDS18p, DQ1T3/DQ1T12 (io), F9 IO, LVDS22p (io), F10 IO, LVDS22n (io), G6 IO, LVDS16n (io), G7 IO, LVDS16p (io), G10 IO, LVDS24n (io), G11 IO, LVDS24p, DQ0T6/DQ1T6 (io)
part C pins: C14 IO, LVDS29n (io), D13 IO, LVDS29p (io), D14 IO, PLL2_OUTn (io), D15 IO, LVDS30n, DQ0R1/DQ1R1 (io), D16 IO, LVDS30p, DQ0R0/DQ1R0 (io), E14 IO, PLL2_OUTp (io), E16 IO (io), F15 IO, LVDS33n, DQ0R7/DQ1R7 (io), F16 IO, LVDS33p, DQ0R6/DQ1R6 (io), G12 IO, LVDS31n, DQ0R3/DQ1R3 (io), G13 IO, LVDS31p, DQ0R2/DQ1R2 (io), G15 IO, LVDS34p, _/DQ1R8 (io), G16 IO, LVDS34n, DM0R/(DM1R0/BWS#1R0) (io), H11 IO, LVDS32p, DQ0R4/DQ1R4 (io), H12 IO, LVDS35n, DQ1R0/DQ1R9 (io), H13 IO, VREFB3N0 (io), J11 IO, LVDS32n, DQ0R5/DQ1R5 (io), J12 IO, LVDS35p, (DPCLK7/DQS0R)/(DPCLK7/DQS0R) (io), K15 IO, LVDS36p, (DPCLK6/DQS1R)/(DPCLK6/DQS1R) (io), K16 IO, LVDS36n, DQ1R1/DQ1R10 (io), L14 IO (io), L15 IO, LVDS37n, DQ1R3/DQ1R12 (io), L16 IO, LVDS37p, DQ1R2/DQ1R11 (io), M12 IO, LVDS42p (io), M14 IO, VREFB3N1 (io), M15 IO, LVDS38n, DQ1R5/DQ1R14 (io), M16 IO, LVDS38p, DQ1R4/DQ1R13 (io), N12 IO, LVDS42n (io), N13 IO, LVDS41n (INIT_DONE) (io), N14 IO, LVDS41p (nCEO) (io), N15 IO, LVDS39n, DQ1R7/DQ1R16 (io), N16 IO, LVDS39p, DQ1R6/DQ1R15 (io), P14 IO (io), P15 IO, LVDS40n, (DM1R/BWS#1R)/(DM1R1/BWS#1R1) (io), P16 IO, LVDS40p, DQ1R8/DQ1R17 (io)
part D pins: K10 IO, LVDS48n (io), K11 IO, LVDS48p (io), L7 IO, LVDS60p (io), L8 IO, LVDS60n (io), L9 IO, LVDS50p (io), L10 IO, LVDS50n (io), L11 IO, LVDS43n (io), L12 IO (io), M11 IO, LVDS43p (io), N8 IO, VREFB4N1 (io), N9 IO, LVDS59p (io), N10 IO, LVDS59n (io), N11 IO, VREFB4N0 (io), P4 IO, LVDS57n, DQ1B7/DQ1B16 (io), P5 IO, LVDS57p, DQ1B8/DQ1B17 (io), P11 IO (io), P12 IO, LVDS47p, DQ0B6/DQ1B6 (io), P13 IO, LVDS47n, DQ0B5/DQ1B5 (io), R3 IO, LVDS58n (DEV_OE) (io), R4 IO, LVDS56n, DQ1B5/DQ1B14 (io), R5 IO, LVDS55n, DQ1B4/DQ1B13 (io), R7 IO, LVDS54n, DQ1B1/DQ1B10 (io), R8 IO, LVDS53n, _/(DM1B0/BWS#1B0) (io), R9 IO, LVDS52n (io), R10 IO, LVDS49p (io), R11 IO, LVDS51n, DM0B/DQ1B8 (io), R12 IO, LVDS46n, DQ0B4/DQ1B4 (io), R13 IO, LVDS45n, DQ0B2/DQ1B2 (io), R14 IO, LVDS44n, DQ0B0/DQ1B0 (io), T3 IO, LVDS58p, (DM1B/BWS#1B)/(DM1B1/BWS#1B1) (io), T4 IO, LVDS56p, DQ1B6/DQ1B15 (io), T5 IO, LVDS55p, (DPCLK2/DQS1B)/(DPCLK2/DQS1B) (io), T6 IO, DQ1B3/DQ1B12 (io), T7 IO, LVDS54p, DQ1B2/DQ1B11 (io), T8 IO, LVDS53p, DQ1B0/DQ1B9 (io), T9 IO, LVDS52p (io), T10 IO, LVDS49n, DQ0B7/DQ1B7 (io), T11 IO, LVDS51p (io), T12 IO, LVDS46p, (DPCLK4/DQS0B)/(DPCLK4/DQS0B) (io), T13 IO, LVDS45p, DQ0B3/DQ1B3 (io), T14 IO, LVDS44p, DQ0B1/DQ1B1 (io)
part E pins: F1 DATA0 (in), F2 TCK (in), G1 TMS (in), G2 TDO (out), G5 nCE (in), H4 DCLK (io), H5 TDI (in), J5 nCONFIG (in), J13 MSEL0 (in), K12 MSEL1 (in), L13 CONF_DONE (io), M13 nSTATUS (io)
part F pins: A2 VCCIO2 (power), A15 VCCIO2 (power), B1 VCCIO1 (power), B16 VCCIO3 (power), C7 VCCIO2 (power), C10 VCCIO2 (power), E7 VCCIO2 (power), E10 VCCIO2 (power), G3 VCCIO1 (power), G9 VCCINT (power), G14 VCCIO3 (power), H7 VCCINT (power), H10 VCCINT (power), J7 VCCINT (power), K3 VCCIO1 (power), K14 VCCIO3 (power), M7 VCCIO4 (power), M10 VCCIO4 (power), P7 VCCIO4 (power), P10 VCCIO4 (power), R1 VCCIO1 (power), R16 VCCIO3 (power), T2 VCCIO4 (power), T15 VCCIO4 (power)
part G pins: A1 GND (power), A16 GND (power), B2 GND (power), B15 GND (power), C8 GND (power), C9 GND (power), E8 GND (power), E9 GND (power), G8 GND (power), H3 GND (power), H8 GND (power), H9 GND (power), H14 GND (power), J3 GND (power), J8 GND (power), J9 GND (power), J14 GND (power), K9 GND (power), M8 GND (power), M9 GND (power), P8 GND (power), P9 GND (power), R2 GND (power), R15 GND (power), T1 GND (power), T16 GND (power)
part H pins: D12 GND_PLL2 (power), E11 GNDA_PLL2 (power), E12 VCCA_PLL2 (power), F11 VCCD_PLL2 (power), F12 GND_PLL2 (power), L5 GND_PLL1 (power), L6 VCCD_PLL1 (power), M5 VCCA_PLL1 (power), M6 GNDA_PLL1 (power), N5 GND_PLL1 (power)
part I pins: H1 CLK1, LVDSCLK0n INPUT (in), H2 CLK0, LVDSCLK0p INPUT (in), H15 CLK5, LVDSCLK2n INPUT (in), H16 CLK4, LVDSCLK2p INPUT (in), J1 CLK3, LVDSCLK1n INPUT (in), J2 CLK2, LVDSCLK1p INPUT (in), J15 CLK6, LVDSCLK3p INPUT (in), J16 CLK7, LVDSCLK3n INPUT (in)
part J pins: B8 NC, C15 NC, C16 NC, D1 NC, D2 NC, D7 NC, D9 NC, E13 NC, E15 NC, F5 NC, F13 NC, F14 NC, G4 NC, H6 NC, J6 NC, J10 NC, K6 NC, K7 NC, K8 NC, K13 NC, N3 NC, N4 NC, N6 NC, N7 NC, P6 NC, R6 NC
part A text: BANK 1
part B text: BANK 2
part C text: BANK 3
part D text: BANK 4

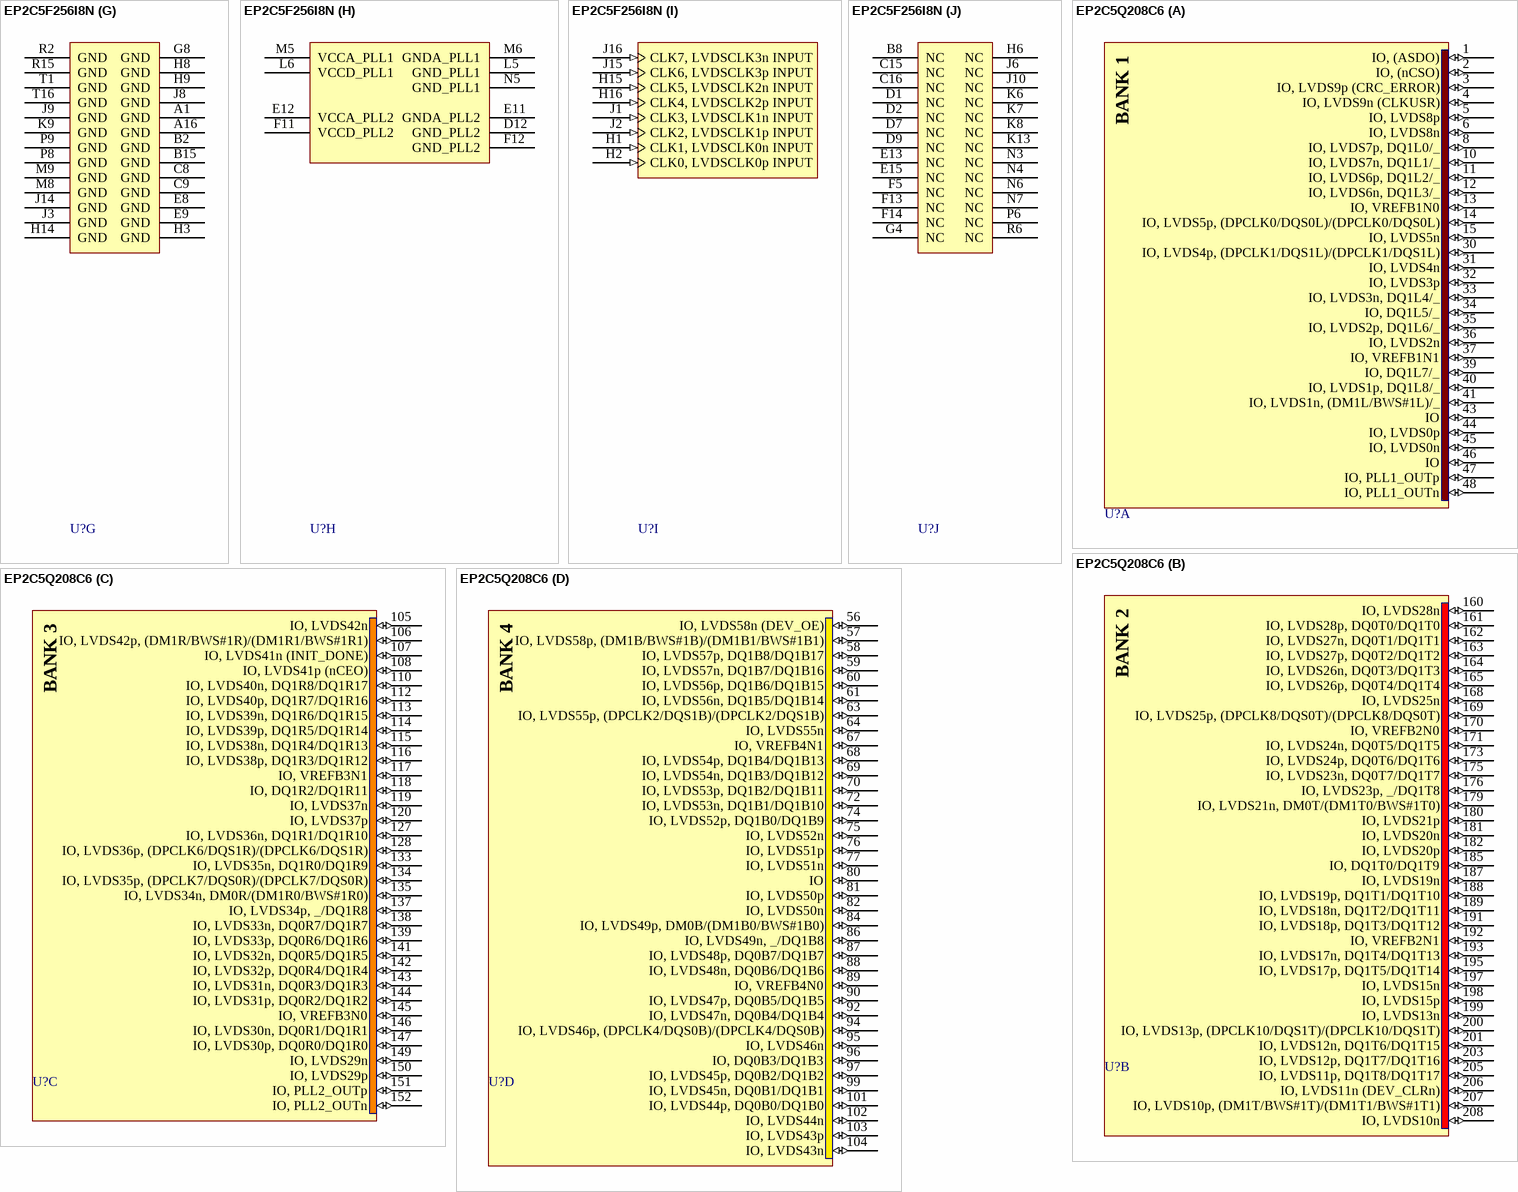
[diagram p14: symbols EP2C5F256I8N to EP2C5Q208C6]

## EP2C5F256I8N
designator U?
Cyclone II Family, 1.2V FPGA, 158 I/O Pins, 2 PLLs, 256-Pin FBGA, Speed Grade 8, Industrial Grade, Pb-Free; Note: DQS signal pins named according to DQ bus modes.  "/" separates each mode. ie. Modes x8/x9 / Modes x16/x18.; Published: 18-Aug-2005; LatestRevisionDate: 14-May-2007; LatestRevisionNote: PCB pad size reduced.; DatasheetVersion: ver3.3, Feb-2008; PackageVersion: ver15.4, Dec-2008; PackageReference: FBGA256-2; Publisher: Altium Limited; PackageDescription: 256-Ball FineLine Ball Grid Array (FBGA256) - Option 2 - Wire Bond; Code_JEDEC: MO-192-DAF-1; ComponentLink1Description: Manufacturer Link; ComponentLink1URL: http://www.altera.com/products/devices/cyclone2/cy2-index.jsp; ComponentLink2Description: Handbook; ComponentLink2URL: http://www.altera.com/literature/hb/cyc2/cyc2_cii5v1.pdf; ComponentLink3Description: Packaging Specification; ComponentLink3URL: http://www.altera.com/literature/ds/dspkg.pdf
footprint FBGA256-2 (BGA, 256-Leads, Body 17x17mm, Pitch 1mm)
3D model EP2C5-FBGA256 (256-Ball FineLine Ball Grid Array (FBGA256) - Option 2 - Wire Bond)
signal-integrity model EP2C5F_256 (Cyclone II)
part A pins: C1 IO, LVDS9p (CRC_ERROR) (io), C2 IO, LVDS9n (CLKUSR) (io), C3 IO, (ASDO) (io), D3 IO, LVDS6p, DQ0L3/DQ1L3 (io), D4 IO, LVDS6n, DQ0L4/DQ1L4 (io), D5 IO, LVDS8p (io), E1 IO, LVDS5p, (DPCLK0/DQS0L)/(DPCLK0/DQS0L) (io), E2 IO, LVDS5n, DQ0L5/DQ1L5 (io), E3 IO, LVDS7p, DQ0L1/DQ1L1 (io), E4 IO, LVDS7n, DQ0L2/DQ1L2 (io), E5 IO, LVDS8n, DQ0L0/DQ1L0 (io), F3 IO, VREFB1N0 (io), F4 IO, (nCSO) (io), J4 IO, VREFB1N1 (io), K1 IO, LVDS4n, DQ0L6/DQ1L6 (io), K2 IO, LVDS4p, (DPCLK1/DQS1L)/(DPCLK1/DQS1L) (io), K4 IO, LVDS3p, DQ0L7/DQ1L7 (io), K5 IO, LVDS3n, _/DQ1L8 (io), L1 IO, LVDS2p, DQ1L0/DQ1L9 (io), L2 IO, LVDS2n, DQ1L1/DQ1L10 (io), L3 IO, DQ1L6/DQ1L15 (io), L4 IO, PLL1_OUTp (io), M1 IO, DM0L/(DM1L0/BWS#1L0) (io), M2 IO, DQ1L2/DQ1L11 (io), M3 IO, DQ1L3/DQ1L12 (io), M4 IO, PLL1_OUTn (io), N1 IO, LVDS1p, DQ1L4/DQ1L13 (io), N2 IO, LVDS1n, DQ1L5/DQ1L14 (io), P1 IO, LVDS0p, DQ1L7/DQ1L16 (io), P2 IO, LVDS0n, DQ1L8/DQ1L17 (io), P3 IO, (DM1L/BWS#1L)/(DM1L1/BWS#1L1) (io)
part B pins: A3 IO, LVDS11p, (DM1T/BWS#1T)/(DM1T1/BWS#1T1) (io), A4 IO, LVDS12p, DQ1T8/DQ1T17 (io), A5 IO, LVDS13p, (DPCLK10/DQS1T)/(DPCLK10/DQS1T) (io), A6 IO, LVDS17p, DQ1T5/DQ1T14 (io), A7 IO, LVDS19n, DQ1T0/DQ1T9 (io), A8 IO (io), A9 IO, LVDS20n (io), A10 IO, LVDS23p, _/DQ1T8 (io), A11 IO (io), A12 IO, LVDS25p, (DPCLK8/DQS0T)/(DPCLK8/DQS0T) (io), A13 IO, LVDS26p, DQ0T4/DQ1T4 (io), A14 IO, LVDS28p, DQ0T0/DQ1T0 (io), B3 IO, LVDS11n (DEV_CLRn) (io), B4 IO, LVDS12n, DQ1T7/DQ1T16 (io), B5 IO, LVDS13n, DQ1T6/DQ1T15 (io), B6 IO, LVDS17n, DQ1T4/DQ1T13 (io), B7 IO, LVDS19p, DQ1T1/DQ1T10 (io), B9 IO, LVDS20p (io), B10 IO, LVDS23n, DQ0T7/DQ1T7 (io), B11 IO (io), B12 IO, LVDS25n, DQ0T5/DQ1T5 (io), B13 IO, LVDS26n, DQ0T3/DQ1T3 (io), B14 IO, LVDS28n (io), C4 IO, LVDS14p (io), C5 IO, LVDS14n (io), C6 IO, LVDS15p (io), C11 IO, VREFB2N0 (io), C12 IO, LVDS27p, DQ0T2/DQ1T2 (io), C13 IO, LVDS27n, DQ0T1/DQ1T1 (io), D6 IO, LVDS15n (io), D8 IO, VREFB2N1 (io), D10 IO, LVDS21p (io), D11 IO, LVDS21n, DM0T/(DM1T0/BWS#1T0) (io), E6 IO, LVDS10p (io), F6 IO, LVDS10n (io), F7 IO, LVDS18n, DQ1T2/DQ1T11 (io), F8 IO, LVDS18p, DQ1T3/DQ1T12 (io), F9 IO, LVDS22p (io), F10 IO, LVDS22n (io), G6 IO, LVDS16n (io), G7 IO, LVDS16p (io), G10 IO, LVDS24n (io), G11 IO, LVDS24p, DQ0T6/DQ1T6 (io)
part C pins: C14 IO, LVDS29n (io), D13 IO, LVDS29p (io), D14 IO, PLL2_OUTn (io), D15 IO, LVDS30n, DQ0R1/DQ1R1 (io), D16 IO, LVDS30p, DQ0R0/DQ1R0 (io), E14 IO, PLL2_OUTp (io), E16 IO (io), F15 IO, LVDS33n, DQ0R7/DQ1R7 (io), F16 IO, LVDS33p, DQ0R6/DQ1R6 (io), G12 IO, LVDS31n, DQ0R3/DQ1R3 (io), G13 IO, LVDS31p, DQ0R2/DQ1R2 (io), G15 IO, LVDS34p, _/DQ1R8 (io), G16 IO, LVDS34n, DM0R/(DM1R0/BWS#1R0) (io), H11 IO, LVDS32p, DQ0R4/DQ1R4 (io), H12 IO, LVDS35n, DQ1R0/DQ1R9 (io), H13 IO, VREFB3N0 (io), J11 IO, LVDS32n, DQ0R5/DQ1R5 (io), J12 IO, LVDS35p, (DPCLK7/DQS0R)/(DPCLK7/DQS0R) (io), K15 IO, LVDS36p, (DPCLK6/DQS1R)/(DPCLK6/DQS1R) (io), K16 IO, LVDS36n, DQ1R1/DQ1R10 (io), L14 IO (io), L15 IO, LVDS37n, DQ1R3/DQ1R12 (io), L16 IO, LVDS37p, DQ1R2/DQ1R11 (io), M12 IO, LVDS42p (io), M14 IO, VREFB3N1 (io), M15 IO, LVDS38n, DQ1R5/DQ1R14 (io), M16 IO, LVDS38p, DQ1R4/DQ1R13 (io), N12 IO, LVDS42n (io), N13 IO, LVDS41n (INIT_DONE) (io), N14 IO, LVDS41p (nCEO) (io), N15 IO, LVDS39n, DQ1R7/DQ1R16 (io), N16 IO, LVDS39p, DQ1R6/DQ1R15 (io), P14 IO (io), P15 IO, LVDS40n, (DM1R/BWS#1R)/(DM1R1/BWS#1R1) (io), P16 IO, LVDS40p, DQ1R8/DQ1R17 (io)
part D pins: K10 IO, LVDS48n (io), K11 IO, LVDS48p (io), L7 IO, LVDS60p (io), L8 IO, LVDS60n (io), L9 IO, LVDS50p (io), L10 IO, LVDS50n (io), L11 IO, LVDS43n (io), L12 IO (io), M11 IO, LVDS43p (io), N8 IO, VREFB4N1 (io), N9 IO, LVDS59p (io), N10 IO, LVDS59n (io), N11 IO, VREFB4N0 (io), P4 IO, LVDS57n, DQ1B7/DQ1B16 (io), P5 IO, LVDS57p, DQ1B8/DQ1B17 (io), P11 IO (io), P12 IO, LVDS47p, DQ0B6/DQ1B6 (io), P13 IO, LVDS47n, DQ0B5/DQ1B5 (io), R3 IO, LVDS58n (DEV_OE) (io), R4 IO, LVDS56n, DQ1B5/DQ1B14 (io), R5 IO, LVDS55n, DQ1B4/DQ1B13 (io), R7 IO, LVDS54n, DQ1B1/DQ1B10 (io), R8 IO, LVDS53n, _/(DM1B0/BWS#1B0) (io), R9 IO, LVDS52n (io), R10 IO, LVDS49p (io), R11 IO, LVDS51n, DM0B/DQ1B8 (io), R12 IO, LVDS46n, DQ0B4/DQ1B4 (io), R13 IO, LVDS45n, DQ0B2/DQ1B2 (io), R14 IO, LVDS44n, DQ0B0/DQ1B0 (io), T3 IO, LVDS58p, (DM1B/BWS#1B)/(DM1B1/BWS#1B1) (io), T4 IO, LVDS56p, DQ1B6/DQ1B15 (io), T5 IO, LVDS55p, (DPCLK2/DQS1B)/(DPCLK2/DQS1B) (io), T6 IO, DQ1B3/DQ1B12 (io), T7 IO, LVDS54p, DQ1B2/DQ1B11 (io), T8 IO, LVDS53p, DQ1B0/DQ1B9 (io), T9 IO, LVDS52p (io), T10 IO, LVDS49n, DQ0B7/DQ1B7 (io), T11 IO, LVDS51p (io), T12 IO, LVDS46p, (DPCLK4/DQS0B)/(DPCLK4/DQS0B) (io), T13 IO, LVDS45p, DQ0B3/DQ1B3 (io), T14 IO, LVDS44p, DQ0B1/DQ1B1 (io)
part E pins: F1 DATA0 (in), F2 TCK (in), G1 TMS (in), G2 TDO (out), G5 nCE (in), H4 DCLK (io), H5 TDI (in), J5 nCONFIG (in), J13 MSEL0 (in), K12 MSEL1 (in), L13 CONF_DONE (io), M13 nSTATUS (io)
part F pins: A2 VCCIO2 (power), A15 VCCIO2 (power), B1 VCCIO1 (power), B16 VCCIO3 (power), C7 VCCIO2 (power), C10 VCCIO2 (power), E7 VCCIO2 (power), E10 VCCIO2 (power), G3 VCCIO1 (power), G9 VCCINT (power), G14 VCCIO3 (power), H7 VCCINT (power), H10 VCCINT (power), J7 VCCINT (power), K3 VCCIO1 (power), K14 VCCIO3 (power), M7 VCCIO4 (power), M10 VCCIO4 (power), P7 VCCIO4 (power), P10 VCCIO4 (power), R1 VCCIO1 (power), R16 VCCIO3 (power), T2 VCCIO4 (power), T15 VCCIO4 (power)
part G pins: A1 GND (power), A16 GND (power), B2 GND (power), B15 GND (power), C8 GND (power), C9 GND (power), E8 GND (power), E9 GND (power), G8 GND (power), H3 GND (power), H8 GND (power), H9 GND (power), H14 GND (power), J3 GND (power), J8 GND (power), J9 GND (power), J14 GND (power), K9 GND (power), M8 GND (power), M9 GND (power), P8 GND (power), P9 GND (power), R2 GND (power), R15 GND (power), T1 GND (power), T16 GND (power)
part H pins: D12 GND_PLL2 (power), E11 GNDA_PLL2 (power), E12 VCCA_PLL2 (power), F11 VCCD_PLL2 (power), F12 GND_PLL2 (power), L5 GND_PLL1 (power), L6 VCCD_PLL1 (power), M5 VCCA_PLL1 (power), M6 GNDA_PLL1 (power), N5 GND_PLL1 (power)
part I pins: H1 CLK1, LVDSCLK0n INPUT (in), H2 CLK0, LVDSCLK0p INPUT (in), H15 CLK5, LVDSCLK2n INPUT (in), H16 CLK4, LVDSCLK2p INPUT (in), J1 CLK3, LVDSCLK1n INPUT (in), J2 CLK2, LVDSCLK1p INPUT (in), J15 CLK6, LVDSCLK3p INPUT (in), J16 CLK7, LVDSCLK3n INPUT (in)
part J pins: B8 NC, C15 NC, C16 NC, D1 NC, D2 NC, D7 NC, D9 NC, E13 NC, E15 NC, F5 NC, F13 NC, F14 NC, G4 NC, H6 NC, J6 NC, J10 NC, K6 NC, K7 NC, K8 NC, K13 NC, N3 NC, N4 NC, N6 NC, N7 NC, P6 NC, R6 NC
part A text: BANK 1
part B text: BANK 2
part C text: BANK 3
part D text: BANK 4

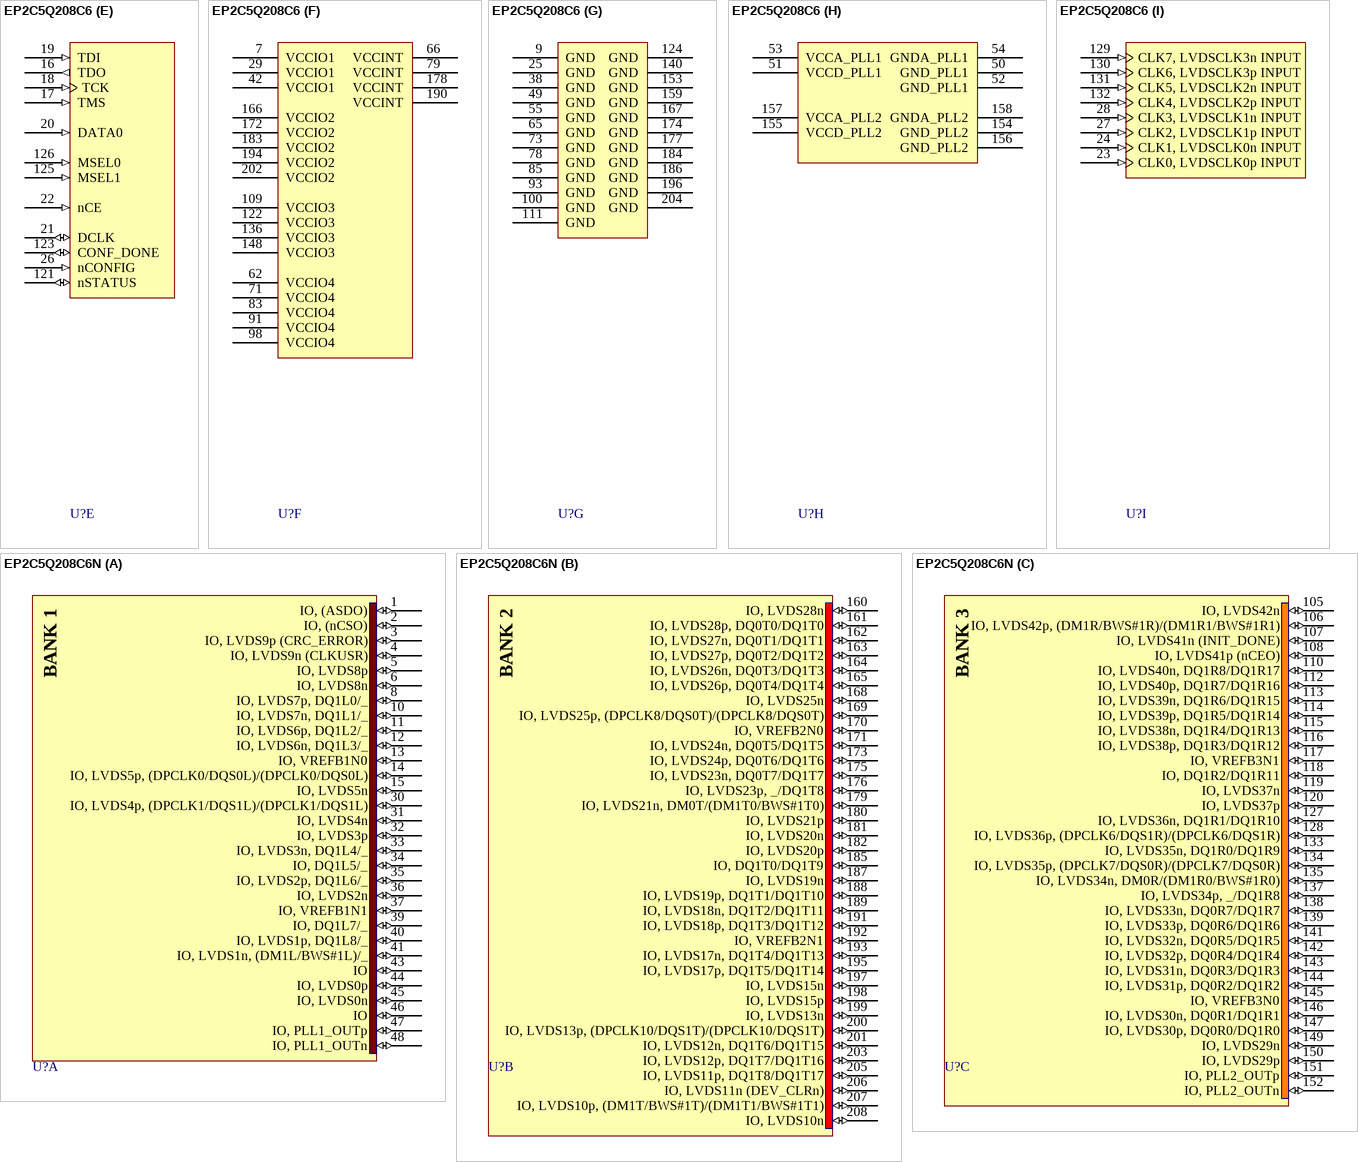
[diagram p15: symbols EP2C5Q208C6 to EP2C5Q208C6N]

## EP2C5Q208C6
designator U?
Cyclone II Family, 1.2V FPGA, 142 I/O Pins, 2 PLLs, 208-Pin PQFP, Speed Grade 6, Commercial Grade; Note: DQS signal pins named according to DQ bus modes.  "/" separates each mode. ie. Modes x8/x9 / Modes x16/x18.; Published: 4-Mar-2005; LatestRevisionDate: 14-May-2007; LatestRevisionNote: DATA0 pin is now INPUT.; DatasheetVersion: ver3.3, Feb-2008; PackageVersion: ver15.4, Dec-2008; PackageReference: PQFP208; Publisher: Altium Limited; PackageDescription: 208-Pin Plastic Quad Flat Pack (PQFP208) - Wire Bond; Status: Not listed in latest datasheet.; Code_JEDEC: MS-029-FA-1; ComponentLink1Description: Manufacturer Link; ComponentLink1URL: http://www.altera.com/products/devices/cyclone2/cy2-index.jsp; ComponentLink2Description: Handbook; ComponentLink2URL: http://www.altera.com/literature/hb/cyc2/cyc2_cii5v1.pdf; ComponentLink3Description: Packaging Specification; ComponentLink3URL: http://www.altera.com/literature/ds/dspkg.pdf
footprint PQFP208_N (Shrink QFP, 208-Leads, Body 28x28mm, Pitch 0.5mm, IPC Medium Density)
footprint PQFP208_L (Shrink QFP, 208-Leads, Body 28x28mm, Pitch 0.5mm, IPC High Density)
footprint PQFP208_M (Shrink QFP, 208-Leads, Body 28x28mm, Pitch 0.5mm, IPC Low Density)
3D model EP2C5-PQFP208 (208-Pin Plastic Quad Flat Pack (PQFP208) - Wire Bond)
signal-integrity model EP2C5Q_208 (Cyclone II)
part A pins: 1 IO, (ASDO) (io), 2 IO, (nCSO) (io), 3 IO, LVDS9p (CRC_ERROR) (io), 4 IO, LVDS9n (CLKUSR) (io), 5 IO, LVDS8p (io), 6 IO, LVDS8n (io), 8 IO, LVDS7p, DQ1L0/_ (io), 10 IO, LVDS7n, DQ1L1/_ (io), 11 IO, LVDS6p, DQ1L2/_ (io), 12 IO, LVDS6n, DQ1L3/_ (io), 13 IO, VREFB1N0 (io), 14 IO, LVDS5p, (DPCLK0/DQS0L)/(DPCLK0/DQS0L) (io), 15 IO, LVDS5n (io), 30 IO, LVDS4p, (DPCLK1/DQS1L)/(DPCLK1/DQS1L) (io), 31 IO, LVDS4n (io), 32 IO, LVDS3p (io), 33 IO, LVDS3n, DQ1L4/_ (io), 34 IO, DQ1L5/_ (io), 35 IO, LVDS2p, DQ1L6/_ (io), 36 IO, LVDS2n (io), 37 IO, VREFB1N1 (io), 39 IO, DQ1L7/_ (io), 40 IO, LVDS1p, DQ1L8/_ (io), 41 IO, LVDS1n, (DM1L/BWS#1L)/_ (io), 43 IO (io), 44 IO, LVDS0p (io), 45 IO, LVDS0n (io), 46 IO (io), 47 IO, PLL1_OUTp (io), 48 IO, PLL1_OUTn (io)
part B pins: 160 IO, LVDS28n (io), 161 IO, LVDS28p, DQ0T0/DQ1T0 (io), 162 IO, LVDS27n, DQ0T1/DQ1T1 (io), 163 IO, LVDS27p, DQ0T2/DQ1T2 (io), 164 IO, LVDS26n, DQ0T3/DQ1T3 (io), 165 IO, LVDS26p, DQ0T4/DQ1T4 (io), 168 IO, LVDS25n (io), 169 IO, LVDS25p, (DPCLK8/DQS0T)/(DPCLK8/DQS0T) (io), 170 IO, VREFB2N0 (io), 171 IO, LVDS24n, DQ0T5/DQ1T5 (io), 173 IO, LVDS24p, DQ0T6/DQ1T6 (io), 175 IO, LVDS23n, DQ0T7/DQ1T7 (io), 176 IO, LVDS23p, _/DQ1T8 (io), 179 IO, LVDS21n, DM0T/(DM1T0/BWS#1T0) (io), 180 IO, LVDS21p (io), 181 IO, LVDS20n (io), 182 IO, LVDS20p (io), 185 IO, DQ1T0/DQ1T9 (io), 187 IO, LVDS19n (io), 188 IO, LVDS19p, DQ1T1/DQ1T10 (io), 189 IO, LVDS18n, DQ1T2/DQ1T11 (io), 191 IO, LVDS18p, DQ1T3/DQ1T12 (io), 192 IO, VREFB2N1 (io), 193 IO, LVDS17n, DQ1T4/DQ1T13 (io), 195 IO, LVDS17p, DQ1T5/DQ1T14 (io), 197 IO, LVDS15n (io), 198 IO, LVDS15p (io), 199 IO, LVDS13n (io), 200 IO, LVDS13p, (DPCLK10/DQS1T)/(DPCLK10/DQS1T) (io), 201 IO, LVDS12n, DQ1T6/DQ1T15 (io), 203 IO, LVDS12p, DQ1T7/DQ1T16 (io), 205 IO, LVDS11p, DQ1T8/DQ1T17 (io), 206 IO, LVDS11n (DEV_CLRn) (io), 207 IO, LVDS10p, (DM1T/BWS#1T)/(DM1T1/BWS#1T1) (io), 208 IO, LVDS10n (io)
part C pins: 105 IO, LVDS42n (io), 106 IO, LVDS42p, (DM1R/BWS#1R)/(DM1R1/BWS#1R1) (io), 107 IO, LVDS41n (INIT_DONE) (io), 108 IO, LVDS41p (nCEO) (io), 110 IO, LVDS40n, DQ1R8/DQ1R17 (io), 112 IO, LVDS40p, DQ1R7/DQ1R16 (io), 113 IO, LVDS39n, DQ1R6/DQ1R15 (io), 114 IO, LVDS39p, DQ1R5/DQ1R14 (io), 115 IO, LVDS38n, DQ1R4/DQ1R13 (io), 116 IO, LVDS38p, DQ1R3/DQ1R12 (io), 117 IO, VREFB3N1 (io), 118 IO, DQ1R2/DQ1R11 (io), 119 IO, LVDS37n (io), 120 IO, LVDS37p (io), 127 IO, LVDS36n, DQ1R1/DQ1R10 (io), 128 IO, LVDS36p, (DPCLK6/DQS1R)/(DPCLK6/DQS1R) (io), 133 IO, LVDS35n, DQ1R0/DQ1R9 (io), 134 IO, LVDS35p, (DPCLK7/DQS0R)/(DPCLK7/DQS0R) (io), 135 IO, LVDS34n, DM0R/(DM1R0/BWS#1R0) (io), 137 IO, LVDS34p, _/DQ1R8 (io), 138 IO, LVDS33n, DQ0R7/DQ1R7 (io), 139 IO, LVDS33p, DQ0R6/DQ1R6 (io), 141 IO, LVDS32n, DQ0R5/DQ1R5 (io), 142 IO, LVDS32p, DQ0R4/DQ1R4 (io), 143 IO, LVDS31n, DQ0R3/DQ1R3 (io), 144 IO, LVDS31p, DQ0R2/DQ1R2 (io), 145 IO, VREFB3N0 (io), 146 IO, LVDS30n, DQ0R1/DQ1R1 (io), 147 IO, LVDS30p, DQ0R0/DQ1R0 (io), 149 IO, LVDS29n (io), 150 IO, LVDS29p (io), 151 IO, PLL2_OUTp (io), 152 IO, PLL2_OUTn (io)
part D pins: 56 IO, LVDS58n (DEV_OE) (io), 57 IO, LVDS58p, (DM1B/BWS#1B)/(DM1B1/BWS#1B1) (io), 58 IO, LVDS57p, DQ1B8/DQ1B17 (io), 59 IO, LVDS57n, DQ1B7/DQ1B16 (io), 60 IO, LVDS56p, DQ1B6/DQ1B15 (io), 61 IO, LVDS56n, DQ1B5/DQ1B14 (io), 63 IO, LVDS55p, (DPCLK2/DQS1B)/(DPCLK2/DQS1B) (io), 64 IO, LVDS55n (io), 67 IO, VREFB4N1 (io), 68 IO, LVDS54p, DQ1B4/DQ1B13 (io), 69 IO, LVDS54n, DQ1B3/DQ1B12 (io), 70 IO, LVDS53p, DQ1B2/DQ1B11 (io), 72 IO, LVDS53n, DQ1B1/DQ1B10 (io), 74 IO, LVDS52p, DQ1B0/DQ1B9 (io), 75 IO, LVDS52n (io), 76 IO, LVDS51p (io), 77 IO, LVDS51n (io), 80 IO (io), 81 IO, LVDS50p (io), 82 IO, LVDS50n (io), 84 IO, LVDS49p, DM0B/(DM1B0/BWS#1B0) (io), 86 IO, LVDS49n, _/DQ1B8 (io), 87 IO, LVDS48p, DQ0B7/DQ1B7 (io), 88 IO, LVDS48n, DQ0B6/DQ1B6 (io), 89 IO, VREFB4N0 (io), 90 IO, LVDS47p, DQ0B5/DQ1B5 (io), 92 IO, LVDS47n, DQ0B4/DQ1B4 (io), 94 IO, LVDS46p, (DPCLK4/DQS0B)/(DPCLK4/DQS0B) (io), 95 IO, LVDS46n (io), 96 IO, DQ0B3/DQ1B3 (io), 97 IO, LVDS45p, DQ0B2/DQ1B2 (io), 99 IO, LVDS45n, DQ0B1/DQ1B1 (io), 101 IO, LVDS44p, DQ0B0/DQ1B0 (io), 102 IO, LVDS44n (io), 103 IO, LVDS43p (io), 104 IO, LVDS43n (io)
part E pins: 16 TDO (out), 17 TMS (in), 18 TCK (in), 19 TDI (in), 20 DATA0 (in), 21 DCLK (io), 22 nCE (in), 26 nCONFIG (in), 121 nSTATUS (io), 123 CONF_DONE (io), 125 MSEL1 (in), 126 MSEL0 (in)
part F pins: 7 VCCIO1 (power), 29 VCCIO1 (power), 42 VCCIO1 (power), 62 VCCIO4 (power), 66 VCCINT (power), 71 VCCIO4 (power), 79 VCCINT (power), 83 VCCIO4 (power), 91 VCCIO4 (power), 98 VCCIO4 (power), 109 VCCIO3 (power), 122 VCCIO3 (power), 136 VCCIO3 (power), 148 VCCIO3 (power), 166 VCCIO2 (power), 172 VCCIO2 (power), 178 VCCINT (power), 183 VCCIO2 (power), 190 VCCINT (power), 194 VCCIO2 (power), 202 VCCIO2 (power)
part G pins: 9 GND (power), 25 GND (power), 38 GND (power), 49 GND (power), 55 GND (power), 65 GND (power), 73 GND (power), 78 GND (power), 85 GND (power), 93 GND (power), 100 GND (power), 111 GND (power), 124 GND (power), 140 GND (power), 153 GND (power), 159 GND (power), 167 GND (power), 174 GND (power), 177 GND (power), 184 GND (power), 186 GND (power), 196 GND (power), 204 GND (power)
part H pins: 50 GND_PLL1 (power), 51 VCCD_PLL1 (power), 52 GND_PLL1 (power), 53 VCCA_PLL1 (power), 54 GNDA_PLL1 (power), 154 GND_PLL2 (power), 155 VCCD_PLL2 (power), 156 GND_PLL2 (power), 157 VCCA_PLL2 (power), 158 GNDA_PLL2 (power)
part I pins: 23 CLK0, LVDSCLK0p INPUT (in), 24 CLK1, LVDSCLK0n INPUT (in), 27 CLK2, LVDSCLK1p INPUT (in), 28 CLK3, LVDSCLK1n INPUT (in), 129 CLK7, LVDSCLK3n INPUT (in), 130 CLK6, LVDSCLK3p INPUT (in), 131 CLK5, LVDSCLK2n INPUT (in), 132 CLK4, LVDSCLK2p INPUT (in)
part A text: BANK 1
part B text: BANK 2
part C text: BANK 3
part D text: BANK 4

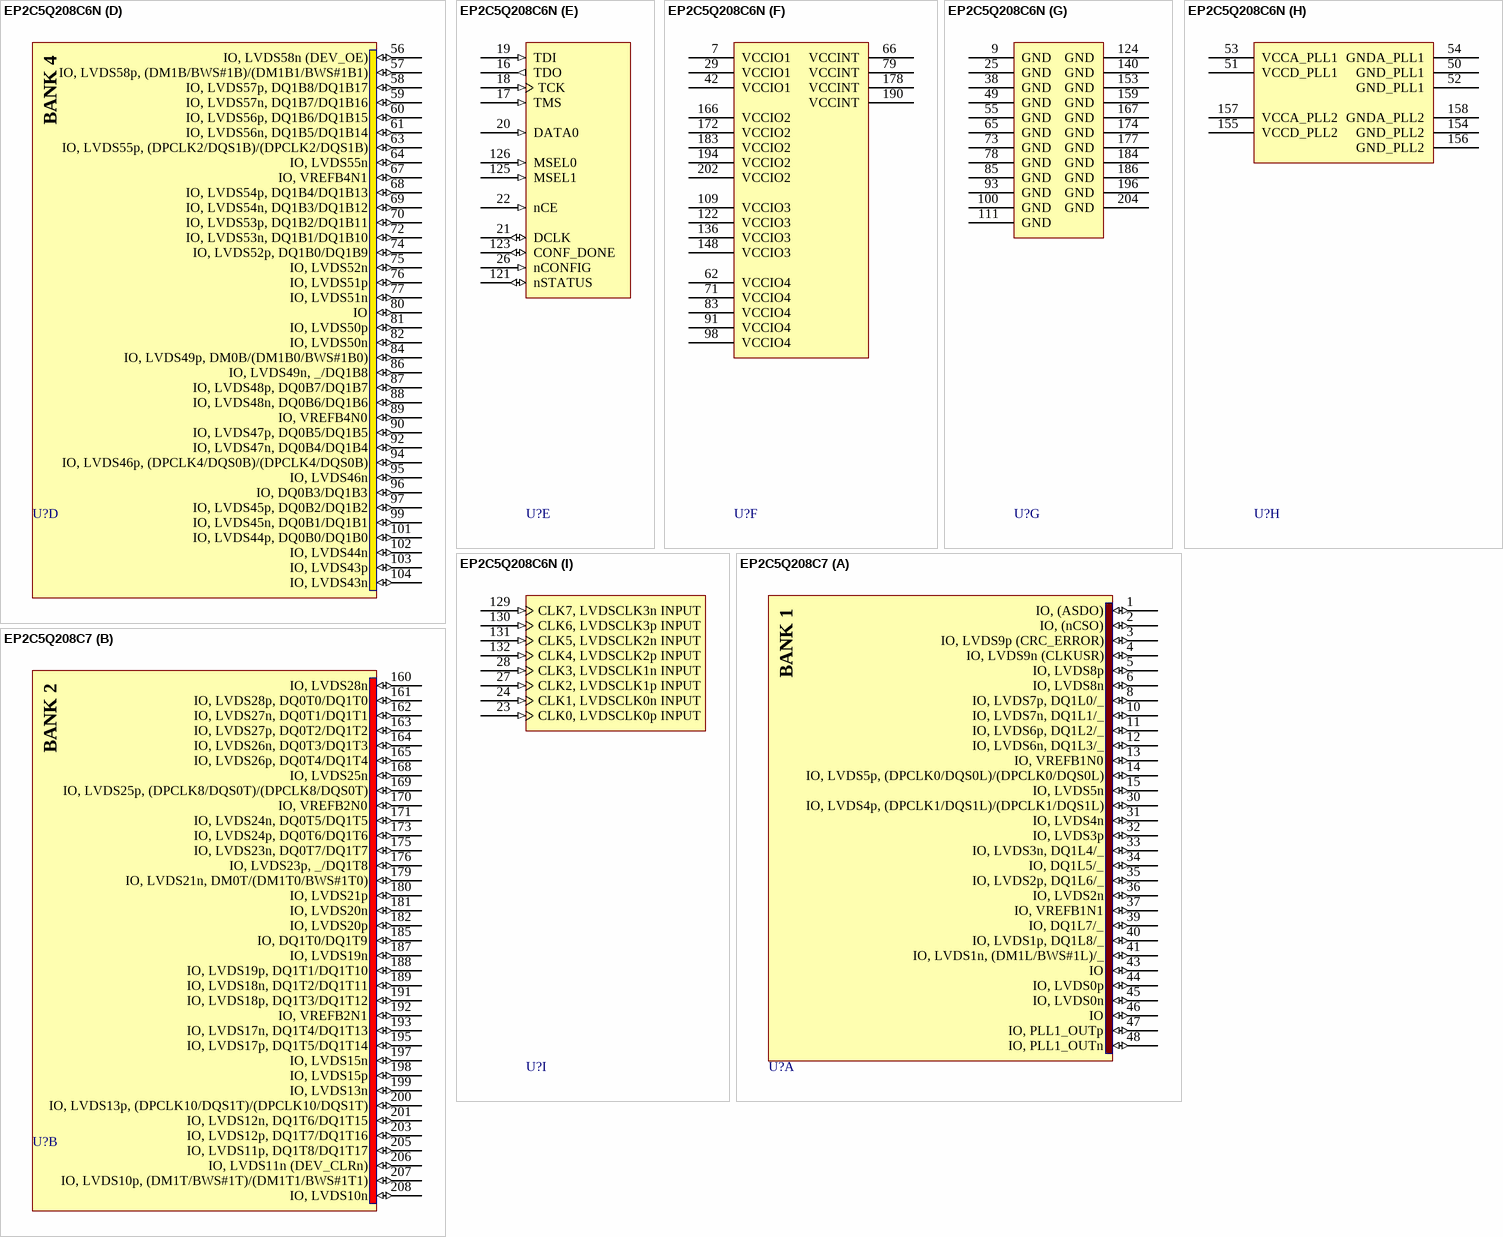
[diagram p16: symbols EP2C5Q208C6N to EP2C5Q208C7]